# Altium schematic symbol library 18650 battery.SCHLIB: 113 symbols (part 1 of 2)
Pins are listed as number, name and electrical type; pins without a type are passive.

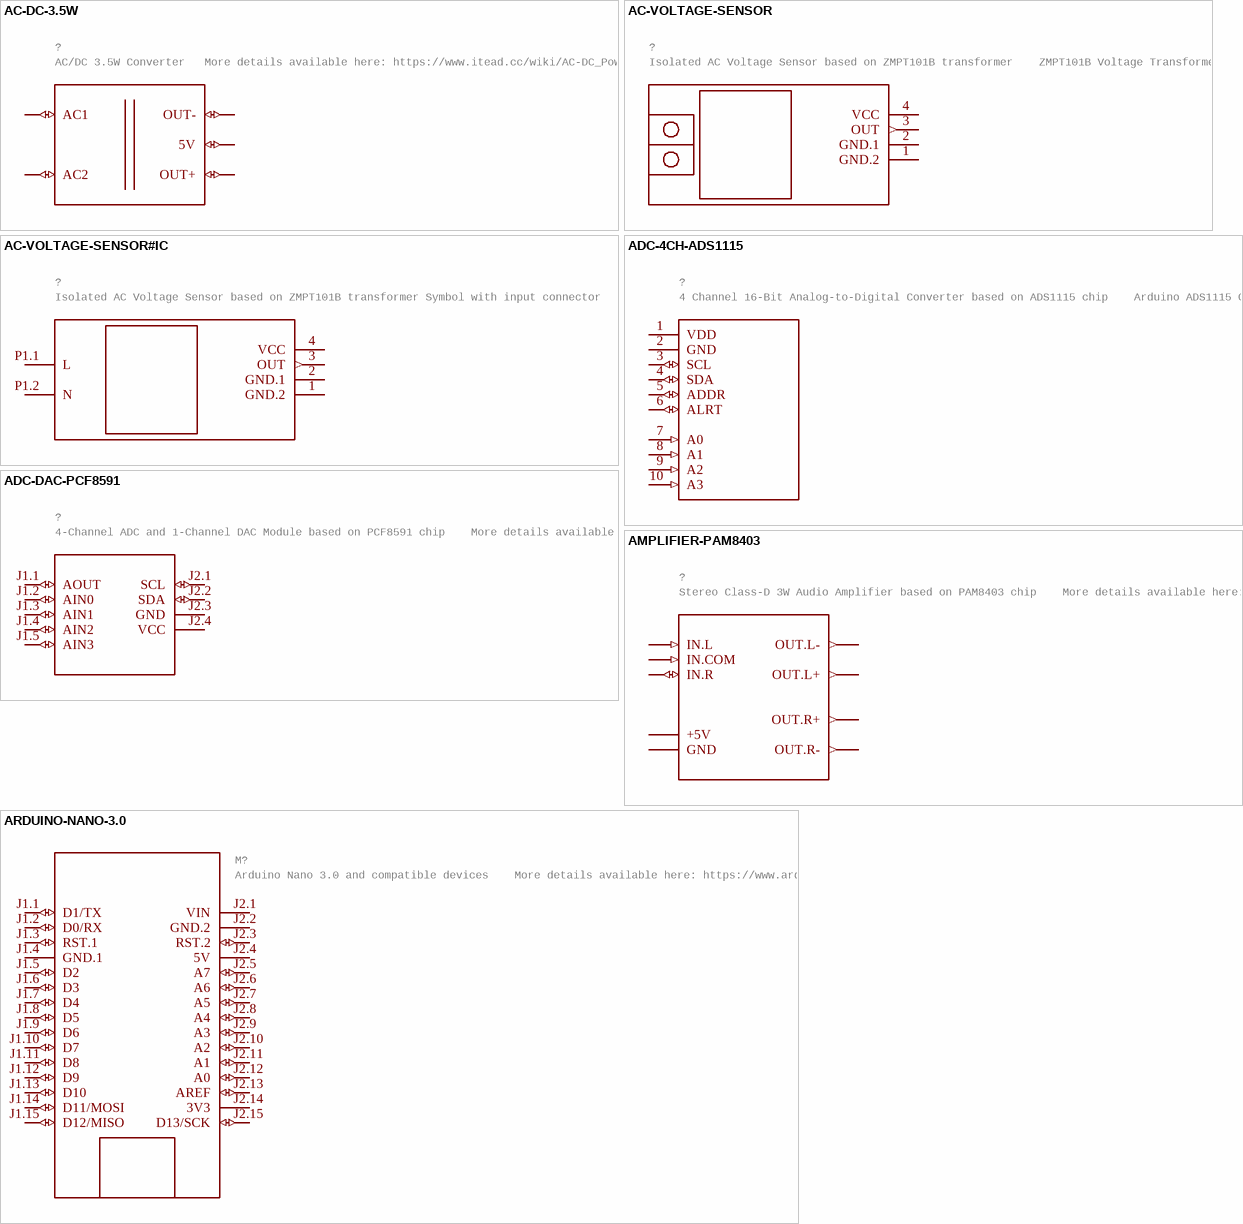
[diagram p0: symbols AC-DC-3.5W to ARDUINO-NANO-3.0]

## AC-DC-3.5W
designator ?, comment AC/DC 3.5W Converter   More details available here: https://www.itead.cc/wiki/AC-DC_Power_Module_5V_700mA   Click here to find device on ebay.com
GateName_1: G$1; SymbolName_1: AC-DC-3.5W; LibraryName: 18650 battery; DeviceSetName: AC-DC-3.5W; Package: AC-DC-3.5W
footprint AC-DC-3.5W
pins: J1.1 AC1 (io), J1.2 AC2 (io), J2.1 OUT- (io), J2.2 5V (io), J2.3 OUT+ (io)

## AC-VOLTAGE-SENSOR
designator ?, comment Isolated AC Voltage Sensor based on ZMPT101B transformer    ZMPT101B Voltage Transformer Operating Guide is available here: http://www.zeming-e.com/file/0_2013_10_18_093344.pdf   Click here to find device on ebay.com
GateName_1: G$1; SymbolName_1: AC-VOLTAGE-SENSOR; LibraryName: 18650 battery; DeviceSetName: AC-VOLTAGE-SENSOR; Package: AC-VOLTAGE-SENSOR
footprint AC-VOLTAGE-SENSOR
pins: 1 GND.2 (power), 2 GND.1 (power), 3 OUT (out), 4 VCC (power)

## AC-VOLTAGE-SENSOR#IC
designator ?, comment Isolated AC Voltage Sensor based on ZMPT101B transformer Symbol with input connector    ZMPT101B Voltage Transformer Operating Guide is available here: http://www.zeming-e.com/file/0_2013_10_18_093344.pdf   Click here to find device on ebay.com
GateName_1: G$1; SymbolName_1: AC-VOLTAGE-SENSOR#IC; LibraryName: 18650 battery; DeviceSetName: AC-VOLTAGE-SENSOR#IC; Package: AC-VOLTAGE-SENSOR#IC
footprint AC-VOLTAGE-SENSOR#IC
pins: 1 GND.2 (power), 2 GND.1 (power), 3 OUT (out), 4 VCC (power), P1.1 L, P1.2 N

## ADC-4CH-ADS1115
designator ?, comment 4 Channel 16-Bit Analog-to-Digital Converter based on ADS1115 chip    Arduino ADS1115 Getting Started Tutorial is available here: http://henrysbench.capnfatz.com/henrys-bench/arduino-voltage-measurements/arduino-ads1115-module-getting-started-tutorial/   ADS1115 datasheet is available here: http://www.ti.com/lit/ds/symlink/ads1115.pdf   Click here to find device on ebay.com
GateName_1: G$1; SymbolName_1: ADC-4CH-ADS1115; LibraryName: 18650 battery; DeviceSetName: ADC-4CH-ADS1115; Package: ADC-4CH-ADS1115
footprint ADC-4CH-ADS1115
pins: 1 VDD (power), 2 GND (power), 3 SCL (io), 4 SDA (io), 5 ADDR (io), 6 ALRT (io), 7 A0 (in), 8 A1 (in), 9 A2 (in), 10 A3 (in)

## ADC-DAC-PCF8591
designator ?, comment 4-Channel ADC and 1-Channel DAC Module based on PCF8591 chip    More details available here: https://brainfyre.wordpress.com/2012/10/25/pcf8591-yl-40-ad-da-module-review/   Click here to find device on ebay.com
GateName_1: G$1; SymbolName_1: ADC-DAC-PCF8591; LibraryName: 18650 battery; DeviceSetName: ADC-DAC-PCF8591; Package: ADC-DAC-PCF8591
footprint ADC-DAC-PCF8591
pins: J1.1 AOUT (io), J1.2 AIN0 (io), J1.3 AIN1 (io), J1.4 AIN2 (io), J1.5 AIN3 (io), J2.1 SCL (io), J2.2 SDA (io), J2.3 GND (power), J2.4 VCC (power)

## AMPLIFIER-PAM8403
designator ?, comment Stereo Class-D 3W Audio Amplifier based on PAM8403 chip    More details available here: http://artofcircuits.com/product/pam8403-5v-two-channel-stereo-mini-class-d-3w3w-audio-amplifier   Click here to find device on ebay.com
GateName_1: G$1; SymbolName_1: AMPLIFIER-PAM8403; LibraryName: 18650 battery; DeviceSetName: AMPLIFIER-PAM8403; Package: AMPLIFIER-PAM8403
footprint AMPLIFIER-PAM8403
pins: +5V (power), GND (power), IN.COM (in), IN.L (in), IN.R (io), OUT.L+ (out), OUT.L- (out), OUT.R+ (out), OUT.R- (out)

## ARDUINO-NANO-3.0
designator M?, comment Arduino Nano 3.0 and compatible devices    More details available here: https://www.arduino.cc/en/Main/ArduinoBoardNano   Click here to find device on ebay.com
GateName_1: G$1; SymbolName_1: ARDUINO-NANO-3.0; LibraryName: 18650 battery; DeviceSetName: ARDUINO-NANO-3.0; Package: ARDUINO-NANO-3.0
footprint ARDUINO-NANO-3.0
pins: J1.1 D1/TX (io), J1.2 D0/RX (io), J1.3 RST.1 (io), J1.4 GND.1 (power), J1.5 D2 (io), J1.6 D3 (io), J1.7 D4 (io), J1.8 D5 (io), J1.9 D6 (io), J1.10 D7 (io), J1.11 D8 (io), J1.12 D9 (io), J1.13 D10 (io), J1.14 D11/MOSI (io), J1.15 D12/MISO (io), J2.1 VIN (power), J2.2 GND.2 (power), J2.3 RST.2 (io), J2.4 5V (power), J2.5 A7 (io), J2.6 A6 (io), J2.7 A5 (io), J2.8 A4 (io), J2.9 A3 (io), J2.10 A2 (io), J2.11 A1 (io), J2.12 A0 (io), J2.13 AREF (io), J2.14 3V3 (power), J2.15 D13/SCK (io)

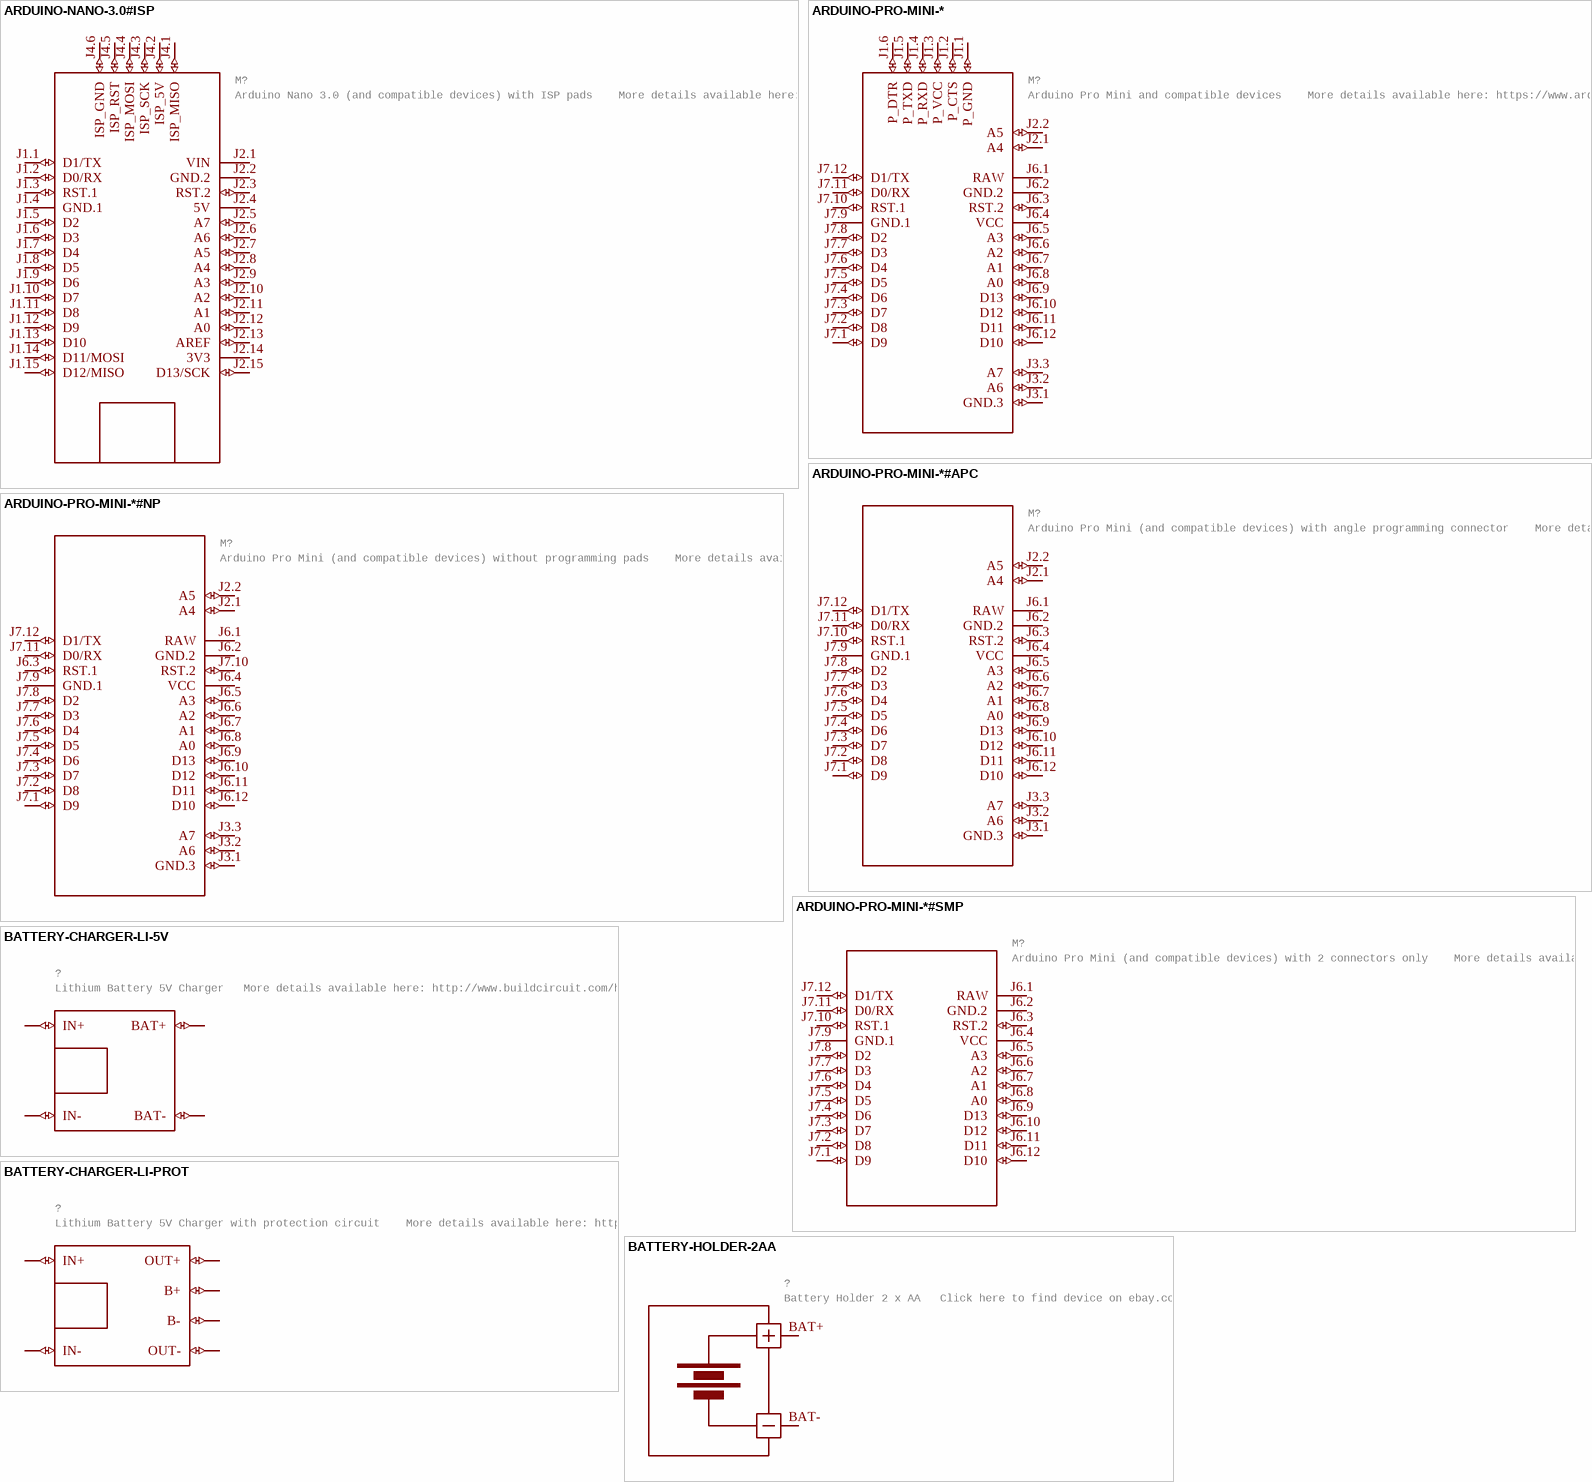
[diagram p1: symbols ARDUINO-NANO-3.0#ISP to BATTERY-HOLDER-2AA]

## ARDUINO-NANO-3.0#ISP
designator M?, comment Arduino Nano 3.0 (and compatible devices) with ISP pads    More details available here: https://www.arduino.cc/en/Main/ArduinoBoardNano   Click here to find device on ebay.com
GateName_1: G$1; SymbolName_1: ARDUINO-NANO-3.0#ISP; LibraryName: 18650 battery; DeviceSetName: ARDUINO-NANO-3.0#ISP; Package: ARDUINO-NANO-3.0#ISP
footprint ARDUINO-NANO-3.0#ISP
pins: J1.1 D1/TX (io), J1.2 D0/RX (io), J1.3 RST.1 (io), J1.4 GND.1 (power), J1.5 D2 (io), J1.6 D3 (io), J1.7 D4 (io), J1.8 D5 (io), J1.9 D6 (io), J1.10 D7 (io), J1.11 D8 (io), J1.12 D9 (io), J1.13 D10 (io), J1.14 D11/MOSI (io), J1.15 D12/MISO (io), J2.1 VIN (power), J2.2 GND.2 (power), J2.3 RST.2 (io), J2.4 5V (power), J2.5 A7 (io), J2.6 A6 (io), J2.7 A5 (io), J2.8 A4 (io), J2.9 A3 (io), J2.10 A2 (io), J2.11 A1 (io), J2.12 A0 (io), J2.13 AREF (io), J2.14 3V3 (power), J2.15 D13/SCK (io), J4.1 ISP_MISO (io), J4.2 ISP_5V (io), J4.3 ISP_SCK (io), J4.4 ISP_MOSI (io), J4.5 ISP_RST (io), J4.6 ISP_GND (io)

## ARDUINO-PRO-MINI-*
designator M?, comment Arduino Pro Mini and compatible devices    More details available here: https://www.arduino.cc/en/Main/ArduinoBoardProMini   Click here to find device on ebay.com
GateName_1: G$1; SymbolName_1: ARDUINO-PRO-MINI; DeviceSetName: ARDUINO-PRO-MINI-*; LibraryName: 18650 battery; Package: ARDUINO-PRO-MINI
footprint ARDUINO-PRO-MINI
pins: J1.1 P_GND (io), J1.2 P_CTS (io), J1.3 P_VCC (io), J1.4 P_RXD (io), J1.5 P_TXD (io), J1.6 P_DTR (io), J2.1 A4 (io), J2.2 A5 (io), J3.1 GND.3 (io), J3.2 A6 (io), J3.3 A7 (io), J6.1 RAW (power), J6.2 GND.2 (power), J6.3 RST.2 (io), J6.4 VCC (power), J6.5 A3 (io), J6.6 A2 (io), J6.7 A1 (io), J6.8 A0 (io), J6.9 D13 (io), J6.10 D12 (io), J6.11 D11 (io), J6.12 D10 (io), J7.1 D9 (io), J7.2 D8 (io), J7.3 D7 (io), J7.4 D6 (io), J7.5 D5 (io), J7.6 D4 (io), J7.7 D3 (io), J7.8 D2 (io), J7.9 GND.1 (power), J7.10 RST.1 (io), J7.11 D0/RX (io), J7.12 D1/TX (io)

## ARDUINO-PRO-MINI-*#APC
designator M?, comment Arduino Pro Mini (and compatible devices) with angle programming connector    More details available here: https://www.arduino.cc/en/Main/ArduinoBoardProMini   Click here to find device on ebay.com
GateName_1: G$1; SymbolName_1: ARDUINO-PRO-MINI#NP; DeviceSetName: ARDUINO-PRO-MINI-*#APC; LibraryName: 18650 battery; Package: ARDUINO-PRO-MINI#APC
footprint ARDUINO-PRO-MINI#APC
pins: J2.1 A4 (io), J2.2 A5 (io), J3.1 GND.3 (io), J3.2 A6 (io), J3.3 A7 (io), J6.1 RAW (power), J6.2 GND.2 (power), J6.3 RST.2 (io), J6.4 VCC (power), J6.5 A3 (io), J6.6 A2 (io), J6.7 A1 (io), J6.8 A0 (io), J6.9 D13 (io), J6.10 D12 (io), J6.11 D11 (io), J6.12 D10 (io), J7.1 D9 (io), J7.2 D8 (io), J7.3 D7 (io), J7.4 D6 (io), J7.5 D5 (io), J7.6 D4 (io), J7.7 D3 (io), J7.8 D2 (io), J7.9 GND.1 (power), J7.10 RST.1 (io), J7.11 D0/RX (io), J7.12 D1/TX (io)

## ARDUINO-PRO-MINI-*#NP
designator M?, comment Arduino Pro Mini (and compatible devices) without programming pads    More details available here: https://www.arduino.cc/en/Main/ArduinoBoardProMini   Click here to find device on ebay.com
GateName_1: G$1; SymbolName_1: ARDUINO-PRO-MINI#NP; DeviceSetName: ARDUINO-PRO-MINI-*#NP; LibraryName: 18650 battery; Package: ARDUINO-PRO-MINI#NP
footprint ARDUINO-PRO-MINI#NP
pins: J2.1 A4 (io), J2.2 A5 (io), J3.1 GND.3 (io), J3.2 A6 (io), J3.3 A7 (io), J6.1 RAW (power), J6.2 GND.2 (power), J6.3 RST.1 (io), J6.4 VCC (power), J6.5 A3 (io), J6.6 A2 (io), J6.7 A1 (io), J6.8 A0 (io), J6.9 D13 (io), J6.10 D12 (io), J6.11 D11 (io), J6.12 D10 (io), J7.1 D9 (io), J7.2 D8 (io), J7.3 D7 (io), J7.4 D6 (io), J7.5 D5 (io), J7.6 D4 (io), J7.7 D3 (io), J7.8 D2 (io), J7.9 GND.1 (power), J7.10 RST.2 (io), J7.11 D0/RX (io), J7.12 D1/TX (io)

## ARDUINO-PRO-MINI-*#SMP
designator M?, comment Arduino Pro Mini (and compatible devices) with 2 connectors only    More details available here: https://www.arduino.cc/en/Main/ArduinoBoardProMini   Click here to find device on ebay.com
GateName_1: G$1; SymbolName_1: ARDUINO-PRO-MINI#SMP; DeviceSetName: ARDUINO-PRO-MINI-*#SMP; LibraryName: 18650 battery; Package: ARDUINO-PRO-MINI#SMP
footprint ARDUINO-PRO-MINI#SMP
pins: J6.1 RAW (power), J6.2 GND.2 (power), J6.3 RST.2 (io), J6.4 VCC (power), J6.5 A3 (io), J6.6 A2 (io), J6.7 A1 (io), J6.8 A0 (io), J6.9 D13 (io), J6.10 D12 (io), J6.11 D11 (io), J6.12 D10 (io), J7.1 D9 (io), J7.2 D8 (io), J7.3 D7 (io), J7.4 D6 (io), J7.5 D5 (io), J7.6 D4 (io), J7.7 D3 (io), J7.8 D2 (io), J7.9 GND.1 (power), J7.10 RST.1 (io), J7.11 D0/RX (io), J7.12 D1/TX (io)

## BATTERY-CHARGER-LI-5V
designator ?, comment Lithium Battery 5V Charger   More details available here: http://www.buildcircuit.com/how-to-use-micro-usb-5v-1a-lithium-battery-charging-board-charger-module/   Click here to find device on ebay.com
GateName_1: G$1; SymbolName_1: BATTERY-CHARGER-LI-5V; LibraryName: 18650 battery; DeviceSetName: BATTERY-CHARGER-LI-5V; Package: BATTERY-CHARGER-LI-5V
footprint BATTERY-CHARGER-LI-5V
pins: BAT+ (io), BAT- (io), IN+ (io), IN- (io)

## BATTERY-CHARGER-LI-PROT
designator ?, comment Lithium Battery 5V Charger with protection circuit    More details available here: http://www.instructables.com/id/DIY-Lithium-ion-Battery-Charger/step4/TP4056-based-lithium-ion-battery-charger-module/   Click here to find device on ebay.com
GateName_1: G$1; SymbolName_1: BATTERY-CHARGER-LI-PROT; LibraryName: 18650 battery; DeviceSetName: BATTERY-CHARGER-LI-PROT; Package: BATTERY-CHARGER-LI-PROT
footprint BATTERY-CHARGER-LI-PROT
pins: B+ (io), B- (io), IN+ (io), IN- (io), OUT+ (io), OUT- (io)

## BATTERY-HOLDER-2AA
designator ?, comment Battery Holder 2 x AA   Click here to find device on ebay.com
GateName_1: G$1; SymbolName_1: BATTERY-HOLDER-2AA; LibraryName: 18650 battery; DeviceSetName: BATTERY-HOLDER-2AA; Package: BATTERY-HOLDER-2AA
footprint BATTERY-HOLDER-2AA
pins: BAT+ (power), BAT- (power)

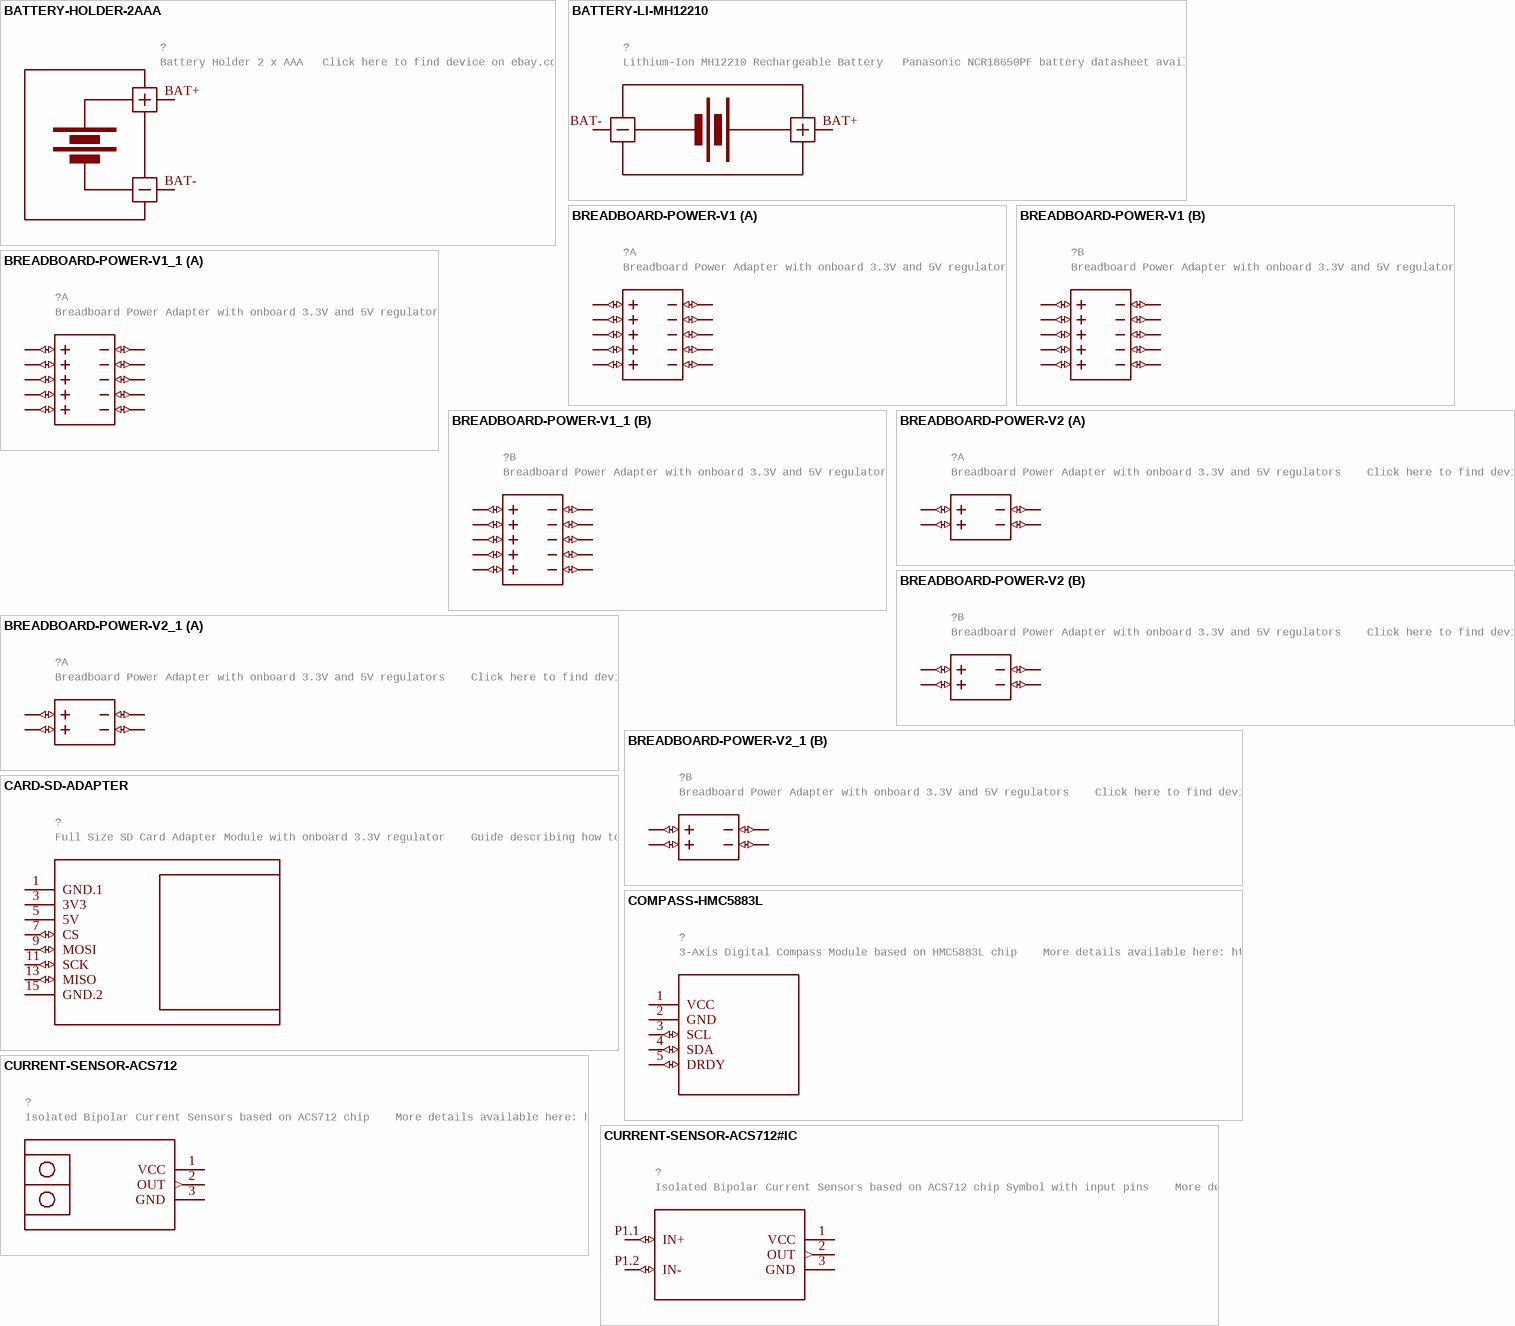
[diagram p2: symbols BATTERY-HOLDER-2AAA to CURRENT-SENSOR-ACS712#IC]

## BATTERY-HOLDER-2AAA
designator ?, comment Battery Holder 2 x AAA   Click here to find device on ebay.com
GateName_1: G$1; SymbolName_1: BATTERY-HOLDER-2AAA; LibraryName: 18650 battery; DeviceSetName: BATTERY-HOLDER-2AAA; Package: BATTERY-HOLDER-2AAA
footprint BATTERY-HOLDER-2AAA
pins: BAT+ (power), BAT- (power)

## BATTERY-LI-MH12210
designator ?, comment Lithium-Ion MH12210 Rechargeable Battery   Panasonic NCR18650PF battery datasheet available here: https://industrial.panasonic.com/cdbs/www-data/pdf2/ACI4000/ACI4000C12.pdf   Click here to find device on ebay.com
GateName_1: G$1; SymbolName_1: BATTERY-LI-MH12210; LibraryName: 18650 battery; DeviceSetName: BATTERY-LI-MH12210; Package: BATTERY-LI-MH12210
footprint BATTERY-LI-MH12210
pins: BAT+ BATP (power), BAT- BATM (power)

## BREADBOARD-POWER-V1
designator ?, comment Breadboard Power Adapter with onboard 3.3V and 5V regulators
GateName_1: G$1; SymbolName_1: BREADBOARD-POWER-V1; GateName_2: G$2; SymbolName_2: BREADBOARD-POWER-V1; LibraryName: 18650 battery; DeviceSetName: BREADBOARD-POWER-V1; Package: BREADBOARD-POWER-V1
footprint BREADBOARD-POWER-V1
part A pins: A.M.1 M.1 (io), A.M.2 M.2 (io), A.M.3 M.3 (io), A.M.4 M.4 (io), A.M.5 M.5 (io), A.P.1 P.1 (io), A.P.2 P.2 (io), A.P.3 P.3 (io), A.P.4 P.4 (io), A.P.5 P.5 (io)
part B pins: B.M.1 M.1 (io), B.M.2 M.2 (io), B.M.3 M.3 (io), B.M.4 M.4 (io), B.M.5 M.5 (io), B.P.1 P.1 (io), B.P.2 P.2 (io), B.P.3 P.3 (io), B.P.4 P.4 (io), B.P.5 P.5 (io)

## BREADBOARD-POWER-V1_1
designator ?, comment Breadboard Power Adapter with onboard 3.3V and 5V regulators
GateName_1: G$1; SymbolName_1: BREADBOARD-POWER-V1; GateName_2: G$2; SymbolName_2: BREADBOARD-POWER-V1; LibraryName: 18650 battery; DeviceSetName: BREADBOARD-POWER-V1; Package: BREADBOARD-POWER-V1
footprint BREADBOARD-POWER-V1
part A pins: A.M.1 M.1 (io), A.M.2 M.2 (io), A.M.3 M.3 (io), A.M.4 M.4 (io), A.M.5 M.5 (io), A.P.1 P.1 (io), A.P.2 P.2 (io), A.P.3 P.3 (io), A.P.4 P.4 (io), A.P.5 P.5 (io)
part B pins: B.M.1 M.1 (io), B.M.2 M.2 (io), B.M.3 M.3 (io), B.M.4 M.4 (io), B.M.5 M.5 (io), B.P.1 P.1 (io), B.P.2 P.2 (io), B.P.3 P.3 (io), B.P.4 P.4 (io), B.P.5 P.5 (io)

## BREADBOARD-POWER-V2
designator ?, comment Breadboard Power Adapter with onboard 3.3V and 5V regulators    Click here to find device on ebay.com
GateName_1: G$1; SymbolName_1: BREADBOARD-POWER-V2; GateName_2: G$2; SymbolName_2: BREADBOARD-POWER-V2; LibraryName: 18650 battery; DeviceSetName: BREADBOARD-POWER-V2; Package: BREADBOARD-POWER-V2
footprint BREADBOARD-POWER-V2
part A pins: A.M.1 M.1 (io), A.M.2 M.2 (io), A.P.1 P.1 (io), A.P.2 P.2 (io)
part B pins: B.M.1 M.1 (io), B.M.2 M.2 (io), B.P.1 P.1 (io), B.P.2 P.2 (io)

## BREADBOARD-POWER-V2_1
designator ?, comment Breadboard Power Adapter with onboard 3.3V and 5V regulators    Click here to find device on ebay.com
GateName_1: G$1; SymbolName_1: BREADBOARD-POWER-V2; GateName_2: G$2; SymbolName_2: BREADBOARD-POWER-V2; LibraryName: 18650 battery; DeviceSetName: BREADBOARD-POWER-V2; Package: BREADBOARD-POWER-V2
footprint BREADBOARD-POWER-V2
part A pins: A.M.1 M.1 (io), A.M.2 M.2 (io), A.P.1 P.1 (io), A.P.2 P.2 (io)
part B pins: B.M.1 M.1 (io), B.M.2 M.2 (io), B.P.1 P.1 (io), B.P.2 P.2 (io)

## CARD-SD-ADAPTER
designator ?, comment Full Size SD Card Adapter Module with onboard 3.3V regulator    Guide describing how to use SD card with Arduino is available here: https://www.arduino.cc/en/Reference/SDCardNotes   Click here to find device on ebay.com
GateName_1: G$1; SymbolName_1: CARD-SD-ADAPTER; LibraryName: 18650 battery; DeviceSetName: CARD-SD-ADAPTER; Package: CARD-SD-ADAPTER
footprint CARD-SD-ADAPTER
pins: 1 GND.1 (power), 3 3V3 (power), 5 5V (power), 7 CS (io), 9 MOSI (io), 11 SCK (io), 13 MISO (io), 15 GND.2 (power)

## COMPASS-HMC5883L
designator ?, comment 3-Axis Digital Compass Module based on HMC5883L chip    More details available here: http://www.electrodragon.com/w/HMC   Click here to find device on ebay.com
GateName_1: G$1; SymbolName_1: COMPASS-HMC5883L; LibraryName: 18650 battery; DeviceSetName: COMPASS-HMC5883L; Package: COMPASS-HMC5883L
footprint COMPASS-HMC5883L
pins: 1 VCC (power), 2 GND (power), 3 SCL (io), 4 SDA (io), 5 DRDY (io)

## CURRENT-SENSOR-ACS712
designator ?, comment Isolated Bipolar Current Sensors based on ACS712 chip    More details available here: http://embedded-lab.com/blog/a-brief-overview-of-allegro-acs712-current-sensor-part-1/   Click here to find device on ebay.com Note: There are many available versions with different pinout. Please check before use
GateName_1: G$1; SymbolName_1: CURRENT-SENSOR-ACS712; LibraryName: 18650 battery; DeviceSetName: CURRENT-SENSOR-ACS712; Package: CURRENT-SENSOR-ACS712
footprint CURRENT-SENSOR-ACS712
pins: 1 VCC (power), 2 OUT (out), 3 GND (power)

## CURRENT-SENSOR-ACS712#IC
designator ?, comment Isolated Bipolar Current Sensors based on ACS712 chip Symbol with input pins    More details available here: http://embedded-lab.com/blog/a-brief-overview-of-allegro-acs712-current-sensor-part-1/   Click here to find device on ebay.com Note: There are many available versions with different pinout. Please check before use
GateName_1: G$1; SymbolName_1: CURRENT-SENSOR-ACS712#IC; LibraryName: 18650 battery; DeviceSetName: CURRENT-SENSOR-ACS712#IC; Package: CURRENT-SENSOR-ACS712#IC
footprint CURRENT-SENSOR-ACS712#IC
pins: 1 VCC (power), 2 OUT (out), 3 GND (power), P1.1 IN+ (io), P1.2 IN- (io)

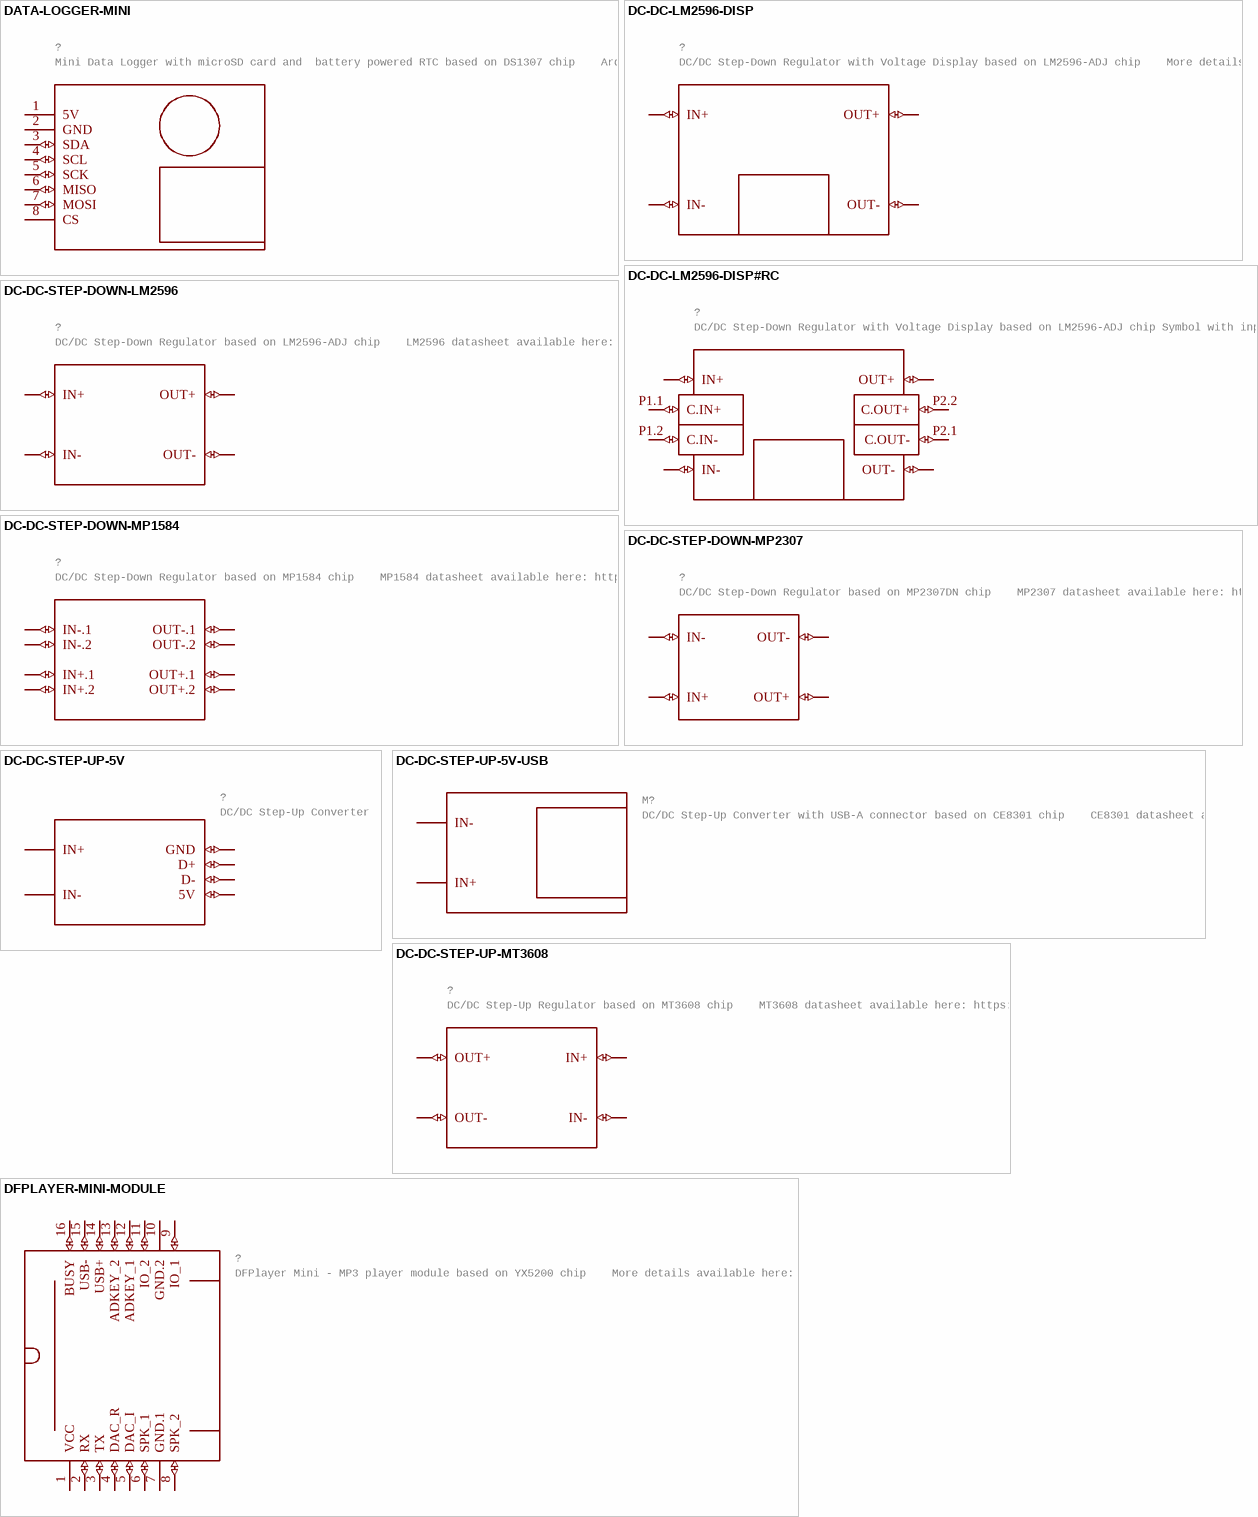
[diagram p3: symbols DATA-LOGGER-MINI to DFPLAYER-MINI-MODULE]

## DATA-LOGGER-MINI
designator ?, comment Mini Data Logger with microSD card and  battery powered RTC based on DS1307 chip    Arduino library for DS1307 and description are available here: https://www.pjrc.com/teensy/td_libs_DS1307RTC.html   Tutorial how to use SD card with Arduino: https://www.arduino.cc/en/reference/SD   Click here to find device on ebay.com
GateName_1: G$1; SymbolName_1: DATA-LOGGER-MINI; LibraryName: 18650 battery; DeviceSetName: DATA-LOGGER-MINI; Package: DATA-LOGGER-MINI
footprint DATA-LOGGER-MINI
pins: 1 5V (power), 2 GND (power), 3 SDA (io), 4 SCL (io), 5 SCK (io), 6 MISO (io), 7 MOSI (io), 8 CS (power)

## DC-DC-LM2596-DISP
designator ?, comment DC/DC Step-Down Regulator with Voltage Display based on LM2596-ADJ chip    More details available here: http://www.instructables.com/id/The-Introduction-of-LM2596-Step-Down-Power-Module-/   LM2596 datasheet available here: http://www.ti.com/lit/ds/symlink/lm2596.pdf   Click here to find device on ebay.com
GateName_1: G$1; SymbolName_1: DC-DC-LM2596-DISP; LibraryName: 18650 battery; DeviceSetName: DC-DC-LM2596-DISP; Package: DC-DC-LM2596-DISP
footprint DC-DC-LM2596-DISP
pins: IN+ (io), IN- (io), OUT+ (io), OUT- (io)

## DC-DC-LM2596-DISP#RC
designator ?, comment DC/DC Step-Down Regulator with Voltage Display based on LM2596-ADJ chip Symbol with input and output connectors    More details available here: http://www.instructables.com/id/The-Introduction-of-LM2596-Step-Down-Power-Module-/   LM2596 datasheet available here: http://www.ti.com/lit/ds/symlink/lm2596.pdf   Click here to find device on ebay.com
GateName_1: G$1; SymbolName_1: DC-DC-LM2596-DISP#RC; LibraryName: 18650 battery; DeviceSetName: DC-DC-LM2596-DISP#RC; Package: DC-DC-LM2596-DISP#RC
footprint DC-DC-LM2596-DISP#RC
pins: IN+ (io), IN- (io), OUT+ (io), OUT- (io), P1.1 C.IN+ (io), P1.2 C.IN- (io), P2.1 C.OUT- (io), P2.2 C.OUT+ (io)

## DC-DC-STEP-DOWN-LM2596
designator ?, comment DC/DC Step-Down Regulator based on LM2596-ADJ chip    LM2596 datasheet available here: http://www.ti.com/lit/ds/symlink/lm2596.pdf   Click here to find device on ebay.com
GateName_1: G$1; SymbolName_1: DC-DC-STEP-DOWN-LM2596; LibraryName: 18650 battery; DeviceSetName: DC-DC-STEP-DOWN-LM2596; Package: DC-DC-STEP-DOWN-LM2596
footprint DC-DC-STEP-DOWN-LM2596
pins: IN+ (io), IN- (io), OUT+ (io), OUT- (io)

## DC-DC-STEP-DOWN-MP1584
designator ?, comment DC/DC Step-Down Regulator based on MP1584 chip    MP1584 datasheet available here: http://www.haoyuelectronics.com/Attachment/MP1584/MP1584.pdf   Click here to find device on ebay.com
GateName_1: G$1; SymbolName_1: DC-DC-STEP-DOWN-MP1584; LibraryName: 18650 battery; DeviceSetName: DC-DC-STEP-DOWN-MP1584; Package: DC-DC-STEP-DOWN-MP1584
footprint DC-DC-STEP-DOWN-MP1584
pins: IN+.1 (io), IN+.2 (io), IN-.1 (io), IN-.2 (io), OUT+.1 (io), OUT+.2 (io), OUT-.1 (io), OUT-.2 (io)

## DC-DC-STEP-DOWN-MP2307
designator ?, comment DC/DC Step-Down Regulator based on MP2307DN chip    MP2307 datasheet available here: https://cdn-shop.adafruit.com/datasheets/MP2307_r1.9.pdf   Click here to find device on ebay.com
GateName_1: G$1; SymbolName_1: DC-DC-STEP-DOWN-MP2307; LibraryName: 18650 battery; DeviceSetName: DC-DC-STEP-DOWN-MP2307; Package: DC-DC-STEP-DOWN-MP2307
footprint DC-DC-STEP-DOWN-MP2307
pins: IN+ (io), IN- (io), OUT+ (io), OUT- (io)

## DC-DC-STEP-UP-5V
designator ?, comment DC/DC Step-Up Converter
GateName_1: G$1; SymbolName_1: DC-DC-STEP-UP-5V; LibraryName: 18650 battery; DeviceSetName: DC-DC-STEP-UP-5V; Package: DC-DC-STEP-UP-5V
footprint DC-DC-STEP-UP-5V
pins: 5V (io), D+ (io), D- (io), GND (io), IN+ (power), IN- (power)

## DC-DC-STEP-UP-5V-USB
designator M?, comment DC/DC Step-Up Converter with USB-A connector based on CE8301 chip    CE8301 datasheet available here: https://www.mpja.com/download/ce830.pdf   Click here to find device on ebay.com
GateName_1: G$1; SymbolName_1: DC-DC-STEP-UP-5V-USB; LibraryName: 18650 battery; DeviceSetName: DC-DC-STEP-UP-5V-USB; Package: DC-DC-STEP-UP-5V-USB
footprint DC-DC-STEP-UP-5V-USB
pins: IN+ (power), IN- (power)

## DC-DC-STEP-UP-MT3608
designator ?, comment DC/DC Step-Up Regulator based on MT3608 chip    MT3608 datasheet available here: https://www.olimex.com/Products/Breadboarding/BB-PWR-3608/resources/MT3608.pdf   Click here to find device on ebay.com
GateName_1: G$1; SymbolName_1: DC-DC-STEP-UP-MT3608; LibraryName: 18650 battery; DeviceSetName: DC-DC-STEP-UP-MT3608; Package: DC-DC-STEP-UP-MT3608
footprint DC-DC-STEP-UP-MT3608
pins: IN+ (io), IN- (io), OUT+ (io), OUT- (io)

## DFPLAYER-MINI-MODULE
designator ?, comment DFPlayer Mini - MP3 player module based on YX5200 chip    More details available here: https://www.dfrobot.com/wiki/index.php/DFPlayer_Mini_SKU:DFR0299   Click here to find device on ebay.com
GateName_1: G$1; SymbolName_1: DFPLAYER-MINI-MODULE; LibraryName: 18650 battery; DeviceSetName: DFPLAYER-MINI-MODULE; Package: DFPLAYER-MINI-MODULE
footprint DFPLAYER-MINI-MODULE
pins: 1 VCC (power), 2 RX (io), 3 TX (io), 4 DAC_R (io), 5 DAC_I (io), 6 SPK_1 (io), 7 GND.1 (power), 8 SPK_2 (io), 9 IO_1 (io), 10 GND.2 (power), 11 IO_2 (io), 12 ADKEY_1 (io), 13 ADKEY_2 (io), 14 USB+ (io), 15 USB- (io), 16 BUSY (io)

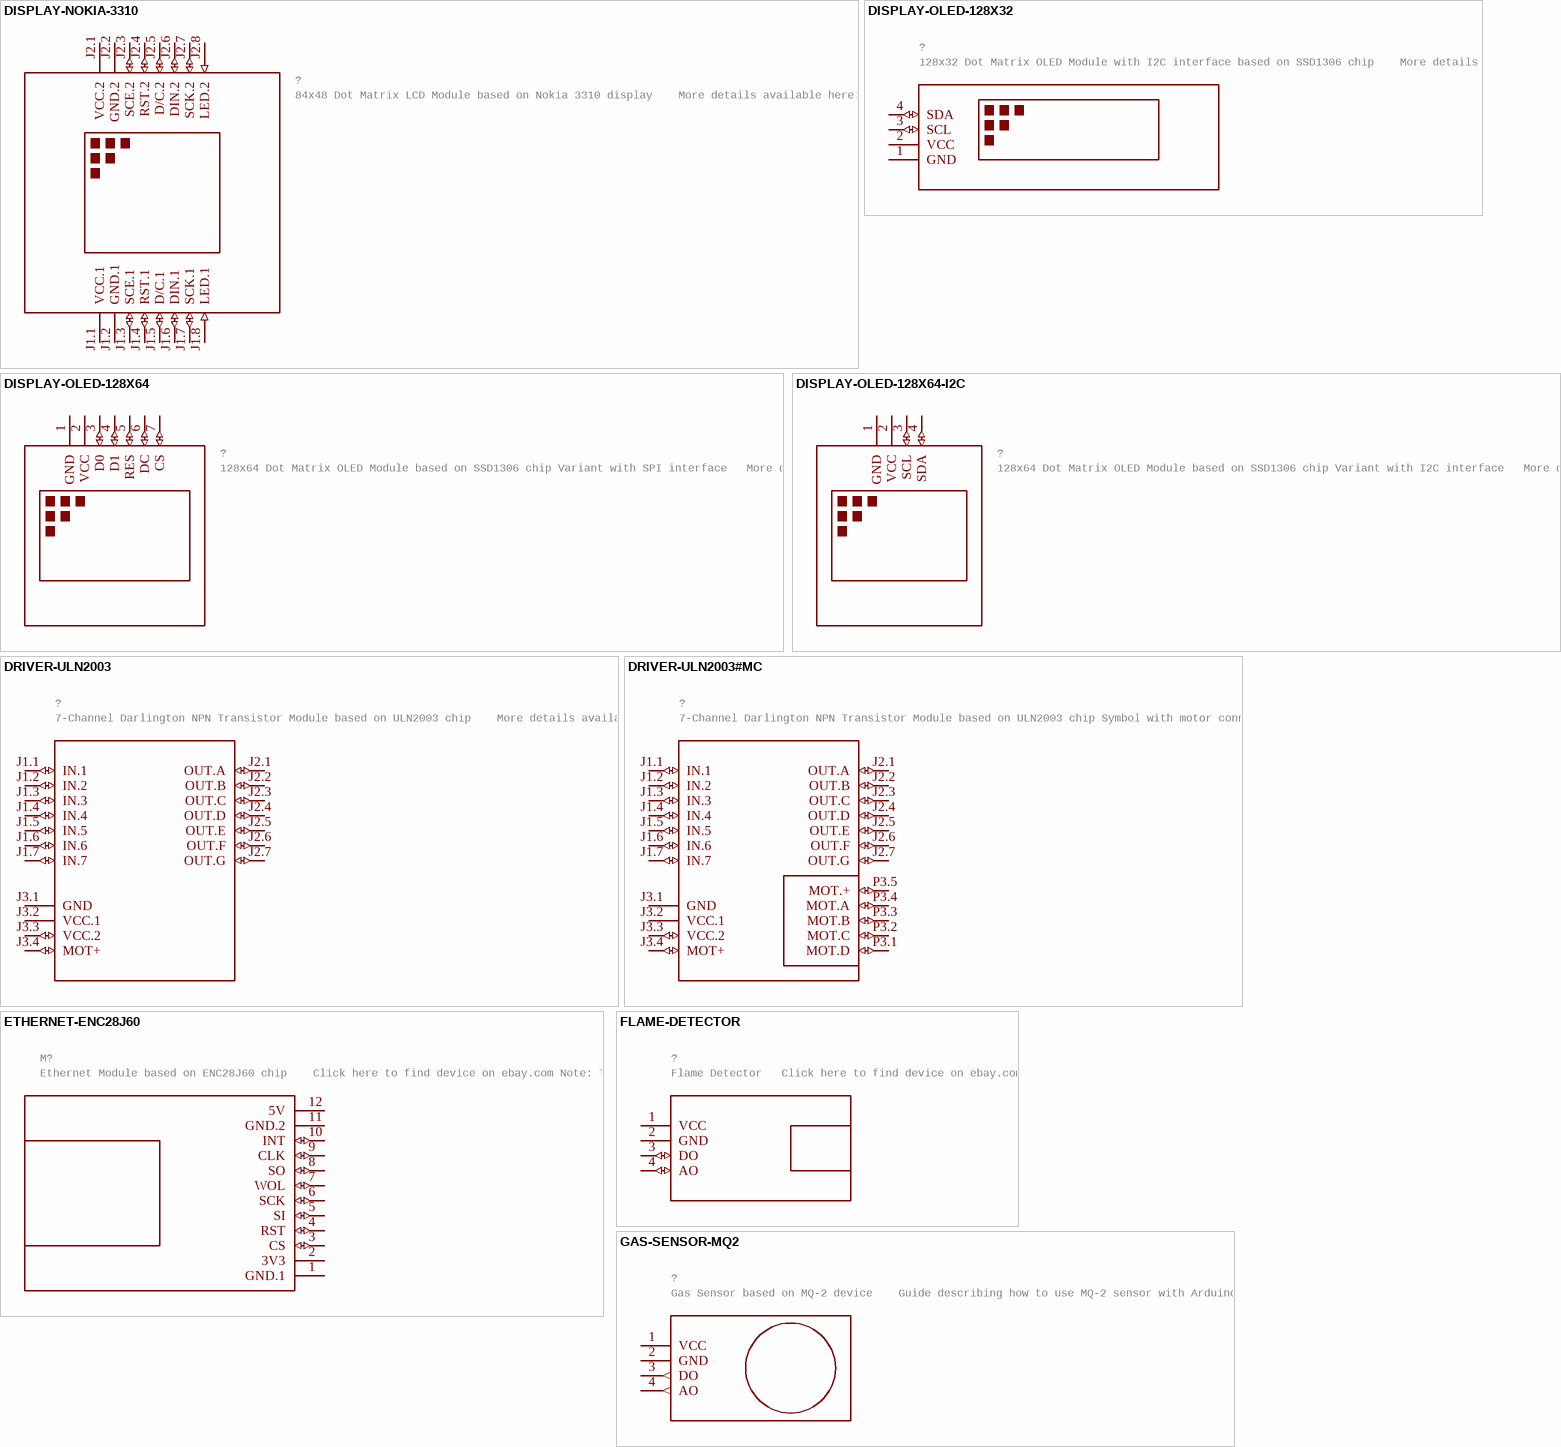
[diagram p4: symbols DISPLAY-NOKIA-3310 to GAS-SENSOR-MQ2]

## DISPLAY-NOKIA-3310
designator ?, comment 84x48 Dot Matrix LCD Module based on Nokia 3310 display    More details available here: https://arduinoandsoftware.wordpress.com/2012/12/30/nokia-33105110-3-3v-display-with-5v-arduino/
GateName_1: G$1; SymbolName_1: DISPLAY-NOKIA-3310; LibraryName: 18650 battery; DeviceSetName: DISPLAY-NOKIA-3310; Package: DISPLAY-NOKIA-3310
footprint DISPLAY-NOKIA-3310
pins: J1.1 VCC.1 (power), J1.2 GND.1 (power), J1.3 SCE.1 (io), J1.4 RST.1 (io), J1.5 D/C.1 (io), J1.6 DIN.1 (io), J1.7 SCK.1 (io), J1.8 LED.1 (in), J2.1 VCC.2 (power), J2.2 GND.2 (power), J2.3 SCE.2 (io), J2.4 RST.2 (io), J2.5 D/C.2 (io), J2.6 DIN.2 (io), J2.7 SCK.2 (io), J2.8 LED.2 (in)

## DISPLAY-OLED-128X32
designator ?, comment 128x32 Dot Matrix OLED Module with I2C interface based on SSD1306 chip    More details available here: http://www.tinyosshop.com/index.php?route=product/product&product_id=953   Schematic available here: http://www.tinyosshop.com/datasheet/OLED%2012832.pdf   SSD1306 datasheet: https://cdn-shop.adafruit.com/datasheets/SSD1306.pdf   Click here to find device on ebay.com
GateName_1: G$1; SymbolName_1: DISPLAY-OLED-128X32; LibraryName: 18650 battery; DeviceSetName: DISPLAY-OLED-128X32; Package: DISPLAY-OLED-128X32
footprint DISPLAY-OLED-128X32
pins: 1 GND (power), 2 VCC (power), 3 SCL (io), 4 SDA (io)

## DISPLAY-OLED-128X64
designator ?, comment 128x64 Dot Matrix OLED Module based on SSD1306 chip Variant with SPI interface   More details available here: http://www.instructables.com/id/How-to-use-OLED-display-arduino-module/   SSD1306 datasheet: https://cdn-shop.adafruit.com/datasheets/SSD1306.pdf   Click here to find device on ebay.com Note: There are two variants: I2C and SPI. Search for the proper version.
GateName_1: G$1; SymbolName_1: DISPLAY-OLED-128X64; LibraryName: 18650 battery; DeviceSetName: DISPLAY-OLED-128X64; Package: DISPLAY-OLED-128X64
footprint DISPLAY-OLED-128X64
pins: 1 GND (power), 2 VCC (power), 3 D0 (io), 4 D1 (io), 5 RES (io), 6 DC (io), 7 CS (io)

## DISPLAY-OLED-128X64-I2C
designator ?, comment 128x64 Dot Matrix OLED Module based on SSD1306 chip Variant with I2C interface   More details available here: http://www.instructables.com/id/Monochrome-096-i2c-OLED-display-with-arduino-SSD13/   SSD1306 datasheet: https://cdn-shop.adafruit.com/datasheets/SSD1306.pdf   Click here to find device on ebay.com Note: There are two variants: I2C and SPI. Search for the proper version.
GateName_1: G$1; SymbolName_1: DISPLAY-OLED-128X64-I2C; LibraryName: 18650 battery; DeviceSetName: DISPLAY-OLED-128X64-I2C; Package: DISPLAY-OLED-128X64-I2C
footprint DISPLAY-OLED-128X64-I2C
pins: 1 GND (power), 2 VCC (power), 3 SCL (io), 4 SDA (io)

## DRIVER-ULN2003
designator ?, comment 7-Channel Darlington NPN Transistor Module based on ULN2003 chip    More details available here: https://www.elecrow.com/wiki/index.php?title=ULN2003_Stepper_Motor_Driver   ULN2003 datasheet available here: http://www.ti.com/lit/ds/slrs027o/slrs027o.pdf   Click here to find device on ebay.com Note: There are many variants. Search for the proper version.
GateName_1: G$1; SymbolName_1: DRIVER-ULN2003; LibraryName: 18650 battery; DeviceSetName: DRIVER-ULN2003; Package: DRIVER-ULN2003
footprint DRIVER-ULN2003
pins: J1.1 IN.1 (io), J1.2 IN.2 (io), J1.3 IN.3 (io), J1.4 IN.4 (io), J1.5 IN.5 (io), J1.6 IN.6 (io), J1.7 IN.7 (io), J2.1 OUT.A (io), J2.2 OUT.B (io), J2.3 OUT.C (io), J2.4 OUT.D (io), J2.5 OUT.E (io), J2.6 OUT.F (io), J2.7 OUT.G (io), J3.1 GND (power), J3.2 VCC.1 (power), J3.3 VCC.2 (io), J3.4 MOT+ (io)

## DRIVER-ULN2003#MC
designator ?, comment 7-Channel Darlington NPN Transistor Module based on ULN2003 chip Symbol with motor connector pins    More details available here: https://www.elecrow.com/wiki/index.php?title=ULN2003_Stepper_Motor_Driver   ULN2003 datasheet available here: http://www.ti.com/lit/ds/slrs027o/slrs027o.pdf   Click here to find device on ebay.com Note: There are many variants. Search for the proper version.
GateName_1: G$1; SymbolName_1: DRIVER-ULN2003#MC; LibraryName: 18650 battery; DeviceSetName: DRIVER-ULN2003#MC; Package: DRIVER-ULN2003#MC
footprint DRIVER-ULN2003#MC
pins: J1.1 IN.1 (io), J1.2 IN.2 (io), J1.3 IN.3 (io), J1.4 IN.4 (io), J1.5 IN.5 (io), J1.6 IN.6 (io), J1.7 IN.7 (io), J2.1 OUT.A (io), J2.2 OUT.B (io), J2.3 OUT.C (io), J2.4 OUT.D (io), J2.5 OUT.E (io), J2.6 OUT.F (io), J2.7 OUT.G (io), J3.1 GND (power), J3.2 VCC.1 (power), J3.3 VCC.2 (io), J3.4 MOT+ (io), P3.1 MOT.D (io), P3.2 MOT.C (io), P3.3 MOT.B (io), P3.4 MOT.A (io), P3.5 MOT.+ (io)

## ETHERNET-ENC28J60
designator M?, comment Ethernet Module based on ENC28J60 chip    Click here to find device on ebay.com Note: There are many variants. Search for the proper version.
GateName_1: G$1; SymbolName_1: ETHERNET-ENC28J60; LibraryName: 18650 battery; DeviceSetName: ETHERNET-ENC28J60; Package: ETHERNET-ENC28J60
footprint ETHERNET-ENC28J60
pins: 1 GND.1 (power), 2 3V3 (power), 3 CS (io), 4 RST (io), 5 SI (io), 6 SCK (io), 7 WOL (io), 8 SO (io), 9 CLK (io), 10 INT (io), 11 GND.2 (power), 12 5V (power)

## FLAME-DETECTOR
designator ?, comment Flame Detector   Click here to find device on ebay.com
GateName_1: G$1; SymbolName_1: FLAME-DETECTOR; LibraryName: 18650 battery; DeviceSetName: FLAME-DETECTOR; Package: FLAME-DETECTOR
footprint FLAME-DETECTOR
pins: 1 VCC (power), 2 GND (power), 3 DO (io), 4 AO (io)

## GAS-SENSOR-MQ2
designator ?, comment Gas Sensor based on MQ-2 device    Guide describing how to use MQ-2 sensor with Arduino is available here: http://www.instructables.com/id/How-to-use-MQ2-Gas-Sensor-Arduino-Tutorial/   MQ-2 sensor datasheet is available here: http://gas-sensor.ru/pdf/combustible-gas-sensor.pdf   Click here to find device on ebay.com
GateName_1: G$1; SymbolName_1: GAS-SENSOR-MQ2; LibraryName: 18650 battery; DeviceSetName: GAS-SENSOR-MQ2; Package: GAS-SENSOR-MQ2
footprint GAS-SENSOR-MQ2
pins: 1 VCC (power), 2 GND (power), 3 DO (out), 4 AO (out)

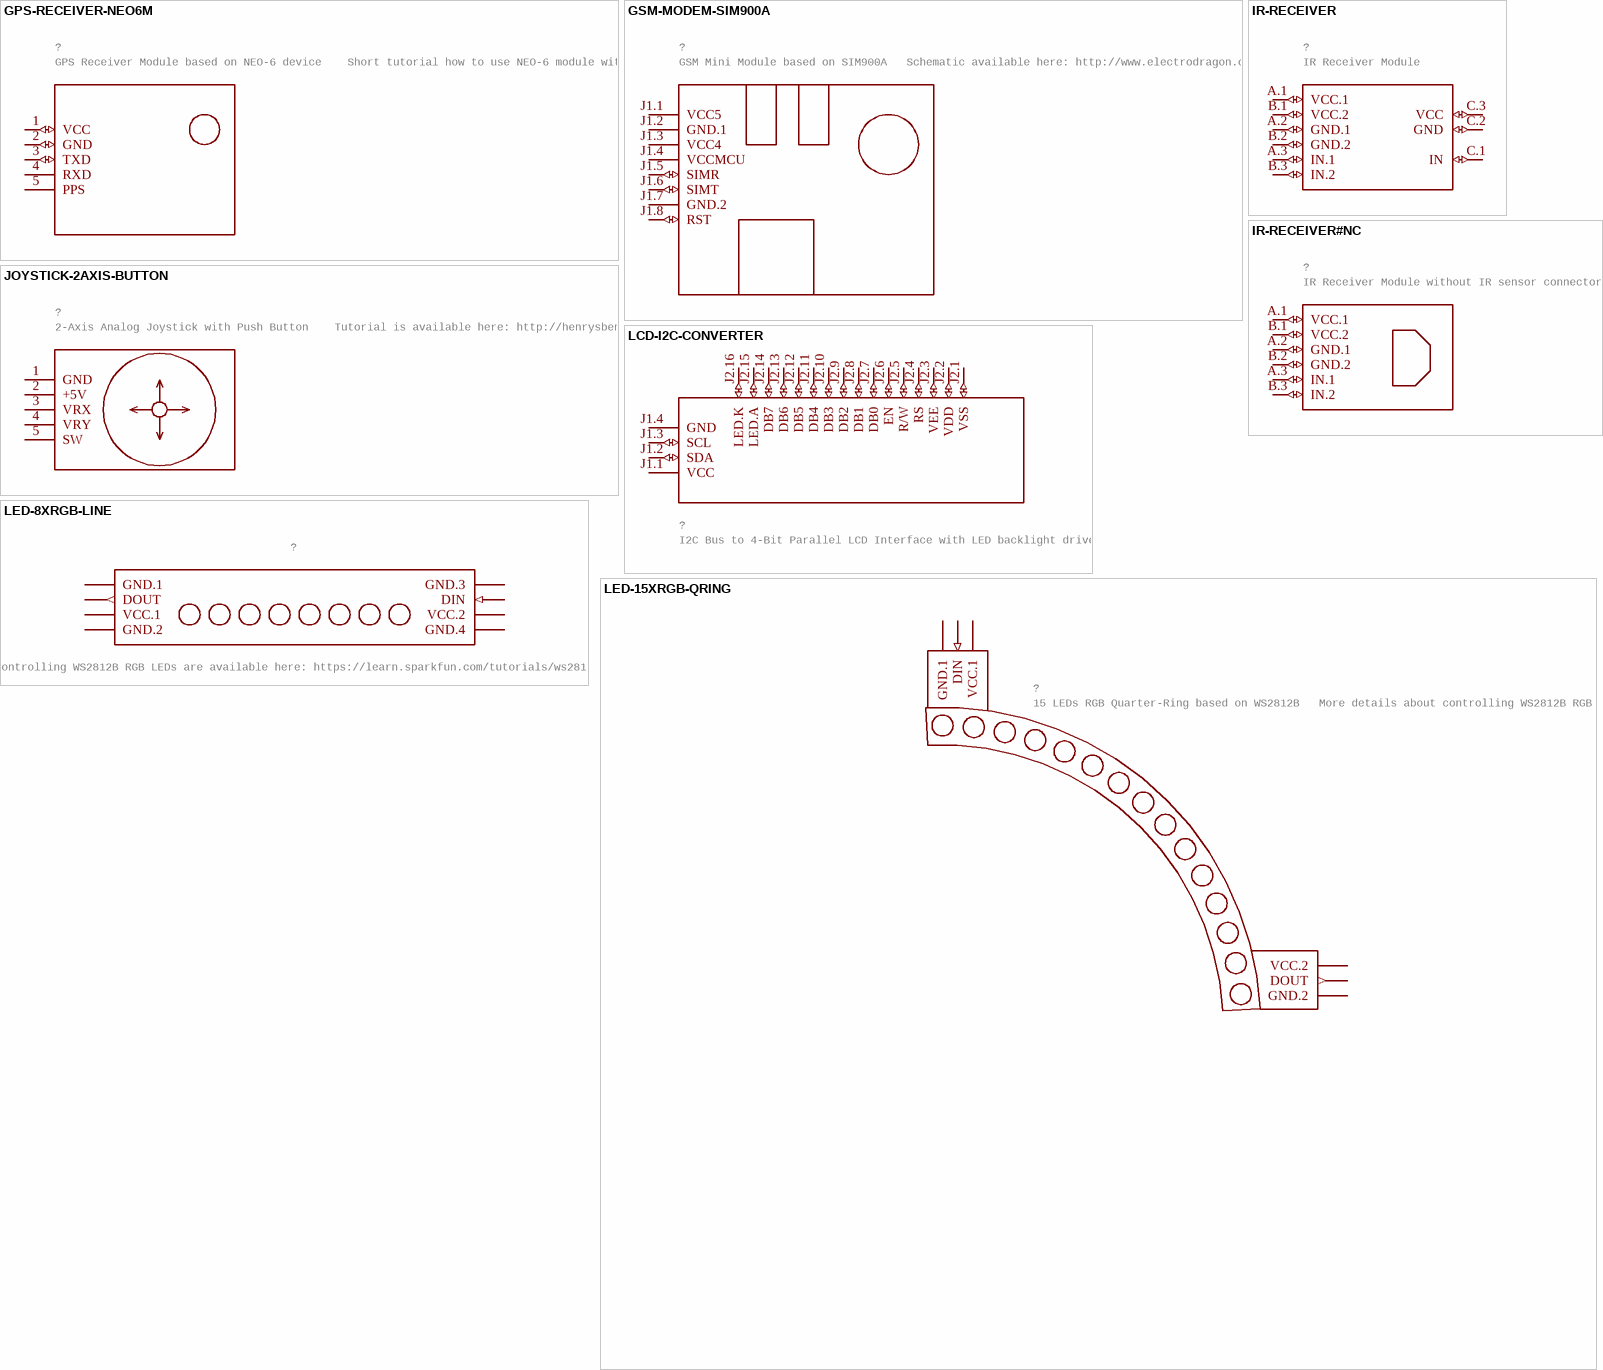
[diagram p5: symbols GPS-RECEIVER-NEO6M to LED-15XRGB-QRING]

## GPS-RECEIVER-NEO6M
designator ?, comment GPS Receiver Module based on NEO-6 device    Short tutorial how to use NEO-6 module with Arduino: http://www.xarg.org/2016/06/neo6mv2-gps-module-with-arduino/   NEO-6 datasheet is available here: https://www.u-blox.com/sites/default/files/products/documents/NEO-6_DataSheet_%28GPS.G6-HW-09005%29.pdf   Click here to find device on ebay.com
GateName_1: G$1; SymbolName_1: GPS-RECEIVER-NEO6M; LibraryName: 18650 battery; DeviceSetName: GPS-RECEIVER-NEO6M; Package: GPS-RECEIVER-NEO6M
footprint GPS-RECEIVER-NEO6M
pins: 1 VCC (io), 2 GND (io), 3 TXD (io), 4 RXD (power), 5 PPS (power)

## GSM-MODEM-SIM900A
designator ?, comment GSM Mini Module based on SIM900A   Schematic available here: http://www.electrodragon.com/w/SIM900_(SIM900A)_Mini_DEV_Board
GateName_1: G$1; SymbolName_1: GSM-MODEM-SIM900A; LibraryName: 18650 battery; DeviceSetName: GSM-MODEM-SIM900A; Package: GSM-MODEM-SIM900A
footprint GSM-MODEM-SIM900A
pins: J1.1 VCC5 (power), J1.2 GND.1 (power), J1.3 VCC4 (power), J1.4 VCCMCU (power), J1.5 SIMR (io), J1.6 SIMT (io), J1.7 GND.2 (power), J1.8 RST (io)

## IR-RECEIVER
designator ?, comment IR Receiver Module
GateName_1: G$1; SymbolName_1: IR-RECEIVER; LibraryName: 18650 battery; DeviceSetName: IR-RECEIVER; Package: IR-RECEIVER
footprint IR-RECEIVER
pins: A.1 VCC.1 (io), A.2 GND.1 (io), A.3 IN.1 (io), B.1 VCC.2 (io), B.2 GND.2 (io), B.3 IN.2 (io), C.1 IN (io), C.2 GND (io), C.3 VCC (io)

## IR-RECEIVER#NC
designator ?, comment IR Receiver Module without IR sensor connector
GateName_1: G$1; SymbolName_1: IR-RECEIVER#NC; LibraryName: 18650 battery; DeviceSetName: IR-RECEIVER#NC; Package: IR-RECEIVER#NC
footprint IR-RECEIVER#NC
pins: A.1 VCC.1 (io), A.2 GND.1 (io), A.3 IN.1 (io), B.1 VCC.2 (io), B.2 GND.2 (io), B.3 IN.2 (io)

## JOYSTICK-2AXIS-BUTTON
designator ?, comment 2-Axis Analog Joystick with Push Button    Tutorial is available here: http://henrysbench.capnfatz.com/henrys-bench/arduino-sensors-and-input/arduino-ps2-joystick-tutorial-keyes-ky-023-deek-robot/   Click here to find device on ebay.com
GateName_1: G$1; SymbolName_1: JOYSTICK-2AXIS-BUTTON; LibraryName: 18650 battery; DeviceSetName: JOYSTICK-2AXIS-BUTTON; Package: JOYSTICK-2AXIS-BUTTON
footprint JOYSTICK-2AXIS-BUTTON
pins: 1 GND (power), 2 +5V (power), 3 VRX, 4 VRY, 5 SW

## LCD-I2C-CONVERTER
designator ?, comment I2C Bus to 4-Bit Parallel LCD Interface with LED backlight driver
GateName_1: G$1; SymbolName_1: LCD-I2C-CONVERTER; LibraryName: 18650 battery; DeviceSetName: LCD-I2C-CONVERTER; Package: LCD-I2C-CONVERTER
footprint LCD-I2C-CONVERTER
pins: J1.1 VCC (power), J1.2 SDA (io), J1.3 SCL (io), J1.4 GND (power), J2.1 VSS (io), J2.2 VDD (io), J2.3 VEE (io), J2.4 RS (io), J2.5 R/W (io), J2.6 EN (io), J2.7 DB0 (io), J2.8 DB1 (io), J2.9 DB2 (io), J2.10 DB3 (io), J2.11 DB4 (io), J2.12 DB5 (io), J2.13 DB6 (io), J2.14 DB7 (io), J2.15 LED.A (io), J2.16 LED.K (io)

## LED-8XRGB-LINE
designator ?, comment 8 LEDs RGB Line Display based on WS2812B   More details about controlling WS2812B RGB LEDs are available here: https://learn.sparkfun.com/tutorials/ws2812-breakout-hookup-guide   Click here to find device on ebay.com
GateName_1: G$1; SymbolName_1: LED-8XRGB-LINE; LibraryName: 18650 battery; DeviceSetName: LED-8XRGB-LINE; Package: LED-8XRGB-LINE
footprint LED-8XRGB-LINE
pins: A.1 GND.1 (power), A.2 DOUT (out), A.3 VCC.1 (power), A.4 GND.2 (power), B.1 GND.3 (power), B.2 DIN (in), B.3 VCC.2 (power), B.4 GND.4 (power)

## LED-15XRGB-QRING
designator ?, comment 15 LEDs RGB Quarter-Ring based on WS2812B   More details about controlling WS2812B RGB LEDs are available here: https://learn.sparkfun.com/tutorials/ws2812-breakout-hookup-guide   Click here to find device on ebay.com Note: Sold in packs of 4 pieces.
GateName_1: G$1; SymbolName_1: LED-15XRGB-QRING; LibraryName: 18650 battery; DeviceSetName: LED-15XRGB-QRING; Package: LED-15XRGB-QRING
footprint LED-15XRGB-QRING
pins: 1 GND.1 (power), 2 DIN (in), 3 VCC.1 (power), 4 GND.2 (power), 5 DOUT (out), 6 VCC.2 (power)

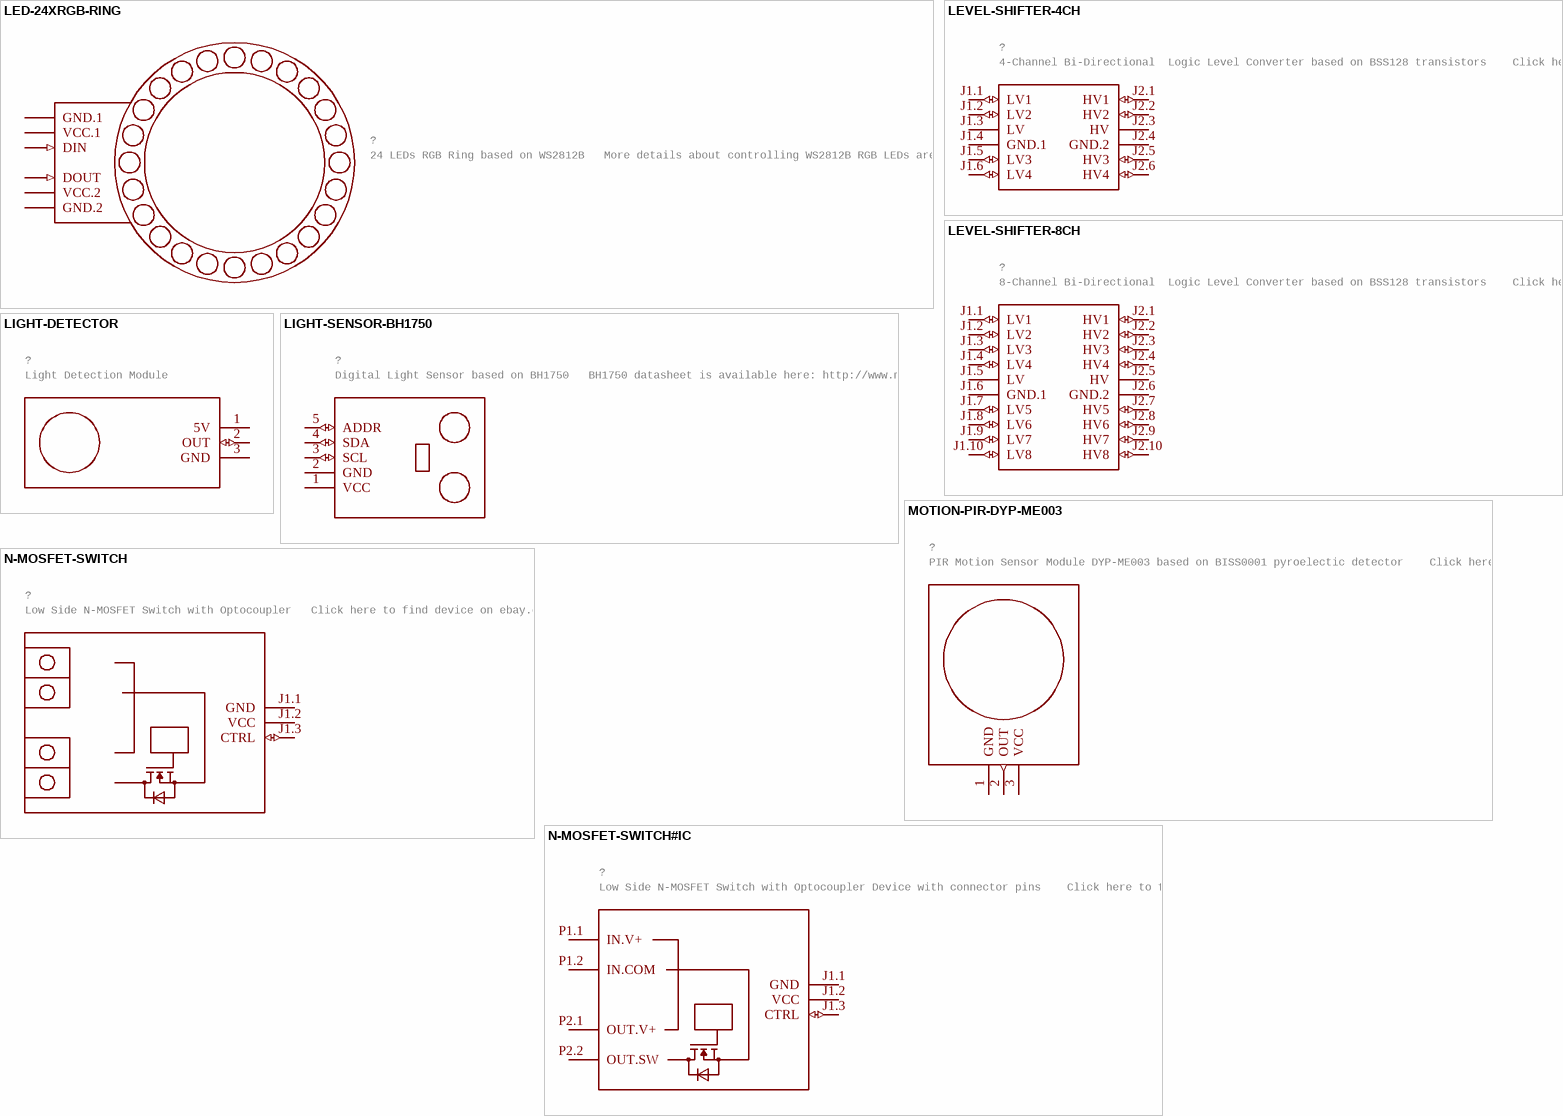
[diagram p6: symbols LED-24XRGB-RING to N-MOSFET-SWITCH#IC]

## LED-24XRGB-RING
designator ?, comment 24 LEDs RGB Ring based on WS2812B   More details about controlling WS2812B RGB LEDs are available here: https://learn.sparkfun.com/tutorials/ws2812-breakout-hookup-guide   Click here to find device on ebay.com
GateName_1: G$1; SymbolName_1: LED-24XRGB-RING; LibraryName: 18650 battery; DeviceSetName: LED-24XRGB-RING; Package: LED-24XRGB-RING
footprint LED-24XRGB-RING
pins: 1 GND.1 (power), 2 VCC.1 (power), 3 DIN (in), 4 DOUT (in), 5 VCC.2 (power), 6 GND.2 (power)

## LEVEL-SHIFTER-4CH
designator ?, comment 4-Channel Bi-Directional  Logic Level Converter based on BSS128 transistors    Click here to find device on ebay.com
GateName_1: G$1; SymbolName_1: LEVEL-SHIFTER-4CH; LibraryName: 18650 battery; DeviceSetName: LEVEL-SHIFTER-4CH; Package: LEVEL-SHIFTER-4CH
footprint LEVEL-SHIFTER-4CH
pins: J1.1 LV1 (io), J1.2 LV2 (io), J1.3 LV (power), J1.4 GND.1 (power), J1.5 LV3 (io), J1.6 LV4 (io), J2.1 HV1 (io), J2.2 HV2 (io), J2.3 HV (power), J2.4 GND.2 (power), J2.5 HV3 (io), J2.6 HV4 (io)

## LEVEL-SHIFTER-8CH
designator ?, comment 8-Channel Bi-Directional  Logic Level Converter based on BSS128 transistors    Click here to find device on ebay.com Note: There are many variants. Search for the proper version.
GateName_1: G$1; SymbolName_1: LEVEL-SHIFTER-8CH; LibraryName: 18650 battery; DeviceSetName: LEVEL-SHIFTER-8CH; Package: LEVEL-SHIFTER-8CH
footprint LEVEL-SHIFTER-8CH
pins: J1.1 LV1 (io), J1.2 LV2 (io), J1.3 LV3 (io), J1.4 LV4 (io), J1.5 LV (power), J1.6 GND.1 (power), J1.7 LV5 (io), J1.8 LV6 (io), J1.9 LV7 (io), J1.10 LV8 (io), J2.1 HV1 (io), J2.2 HV2 (io), J2.3 HV3 (io), J2.4 HV4 (io), J2.5 HV (power), J2.6 GND.2 (power), J2.7 HV5 (io), J2.8 HV6 (io), J2.9 HV7 (io), J2.10 HV8 (io)

## LIGHT-DETECTOR
designator ?, comment Light Detection Module
GateName_1: G$1; SymbolName_1: LIGHT-DETECTOR; LibraryName: 18650 battery; DeviceSetName: LIGHT-DETECTOR; Package: LIGHT-DETECTOR
footprint LIGHT-DETECTOR
pins: 1 5V (power), 2 OUT (io), 3 GND (power)

## LIGHT-SENSOR-BH1750
designator ?, comment Digital Light Sensor based on BH1750   BH1750 datasheet is available here: http://www.mouser.com/ds/2/348/bh1750fvi-e-186247.pdf   Arduino Library for BH1750 is available here: https://github.com/claws/BH1750      Video Tutorial is available here: https://www.youtube.com/watch?v=UsLcHSbxf_8   Click here to find device on ebay.com Note: There are many variants. Search for the proper version.
GateName_1: G$1; SymbolName_1: LIGHT-SENSOR-BH1750; LibraryName: 18650 battery; DeviceSetName: LIGHT-SENSOR-BH1750; Package: LIGHT-SENSOR-BH1750
footprint LIGHT-SENSOR-BH1750
pins: 1 VCC (power), 2 GND (power), 3 SCL (io), 4 SDA (io), 5 ADDR (io)

## MOTION-PIR-DYP-ME003
designator ?, comment PIR Motion Sensor Module DYP-ME003 based on BISS0001 pyroelectic detector    Click here to find device on ebay.com
GateName_1: G$1; SymbolName_1: MOTION-PIR-DYP-ME003; LibraryName: 18650 battery; DeviceSetName: MOTION-PIR-DYP-ME003; Package: MOTION-PIR-DYP-ME003
footprint MOTION-PIR-DYP-ME003
pins: 1 GND (power), 2 OUT (out), 3 VCC (power)

## N-MOSFET-SWITCH
designator ?, comment Low Side N-MOSFET Switch with Optocoupler   Click here to find device on ebay.com
GateName_1: G$1; SymbolName_1: N-MOSFET-SWITCH; LibraryName: 18650 battery; DeviceSetName: N-MOSFET-SWITCH; Package: N-MOSFET-SWITCH
footprint N-MOSFET-SWITCH
pins: J1.1 GND (power), J1.2 VCC (power), J1.3 CTRL (io)

## N-MOSFET-SWITCH#IC
designator ?, comment Low Side N-MOSFET Switch with Optocoupler Device with connector pins    Click here to find device on ebay.com
GateName_1: G$1; SymbolName_1: N-MOSFET-SWITCH#IC; LibraryName: 18650 battery; DeviceSetName: N-MOSFET-SWITCH#IC; Package: N-MOSFET-SWITCH#IC
footprint N-MOSFET-SWITCH#IC
pins: J1.1 GND (power), J1.2 VCC (power), J1.3 CTRL (io), P1.1 IN.V+ (power), P1.2 IN.COM (power), P2.1 OUT.V+ (power), P2.2 OUT.SW (power)

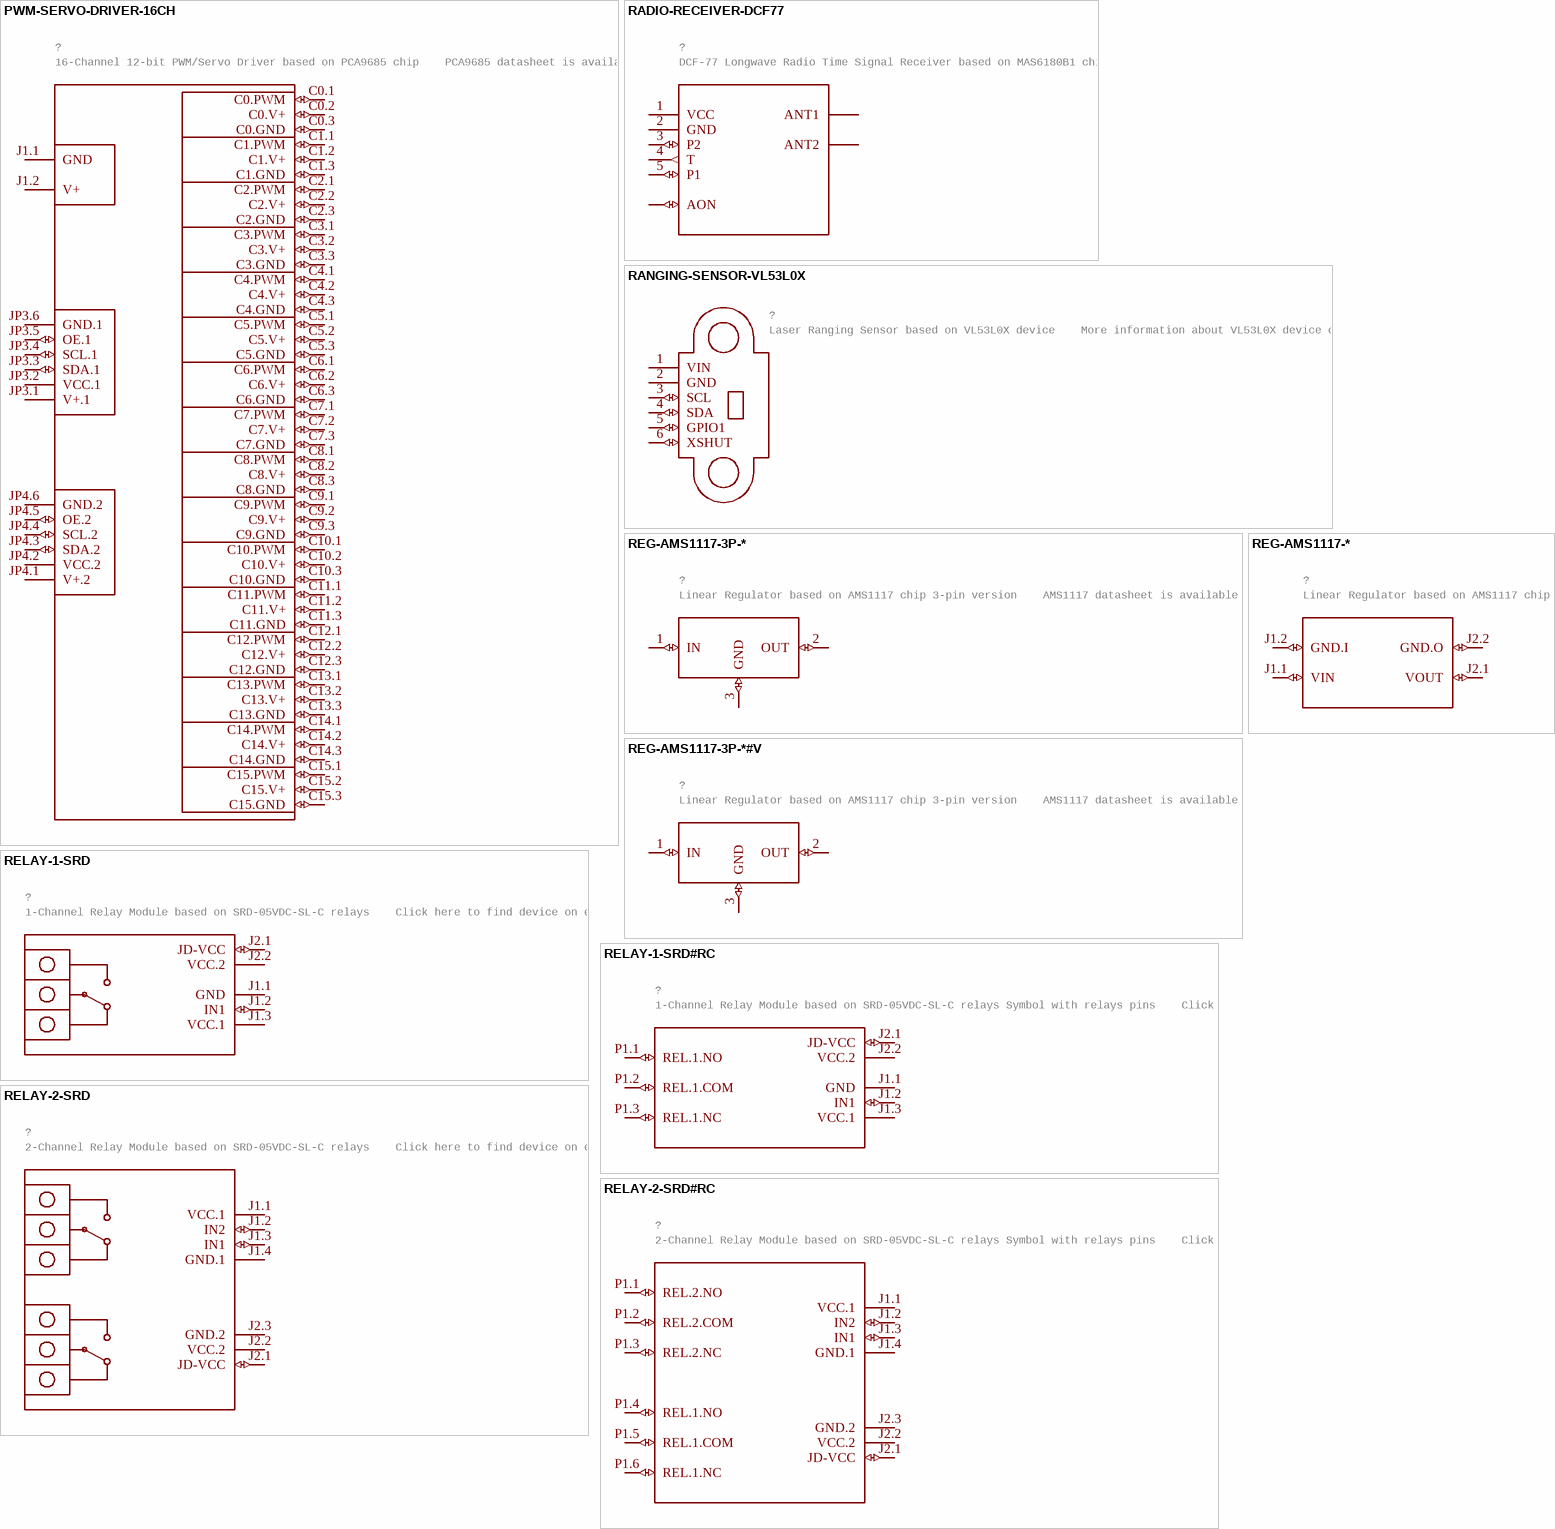
[diagram p7: symbols PWM-SERVO-DRIVER-16CH to RELAY-2-SRD#RC]

## PWM-SERVO-DRIVER-16CH
designator ?, comment 16-Channel 12-bit PWM/Servo Driver based on PCA9685 chip    PCA9685 datasheet is available here: http://www.nxp.com/documents/data_sheet/PCA9685.pdf   Arduino Library for PCA9685 is available here: https://github.com/kasperskaarhoj/PCA9685-Arduino-Library   Click here to find device on ebay.com
GateName_1: G$1; SymbolName_1: PWM-SERVO-DRIVER-16CH; LibraryName: 18650 battery; DeviceSetName: PWM-SERVO-DRIVER-16CH; Package: PWM-SERVO-DRIVER-16CH
footprint PWM-SERVO-DRIVER-16CH
pins: C0.1 C0.PWM (io), C0.2 C0.V+ (io), C0.3 C0.GND (io), C1.1 C1.PWM (io), C1.2 C1.V+ (io), C1.3 C1.GND (io), C2.1 C2.PWM (io), C2.2 C2.V+ (io), C2.3 C2.GND (io), C3.1 C3.PWM (io), C3.2 C3.V+ (io), C3.3 C3.GND (io), C4.1 C4.PWM (io), C4.2 C4.V+ (io), C4.3 C4.GND (io), C5.1 C5.PWM (io), C5.2 C5.V+ (io), C5.3 C5.GND (io), C6.1 C6.PWM (io), C6.2 C6.V+ (io), C6.3 C6.GND (io), C7.1 C7.PWM (io), C7.2 C7.V+ (io), C7.3 C7.GND (io), C8.1 C8.PWM (io), C8.2 C8.V+ (io), C8.3 C8.GND (io), C9.1 C9.PWM (io), C9.2 C9.V+ (io), C9.3 C9.GND (io), C10.1 C10.PWM (io), C10.2 C10.V+ (io), C10.3 C10.GND (io), C11.1 C11.PWM (io), C11.2 C11.V+ (io), C11.3 C11.GND (io), C12.1 C12.PWM (io), C12.2 C12.V+ (io), C12.3 C12.GND (io), C13.1 C13.PWM (io), C13.2 C13.V+ (io), C13.3 C13.GND (io), C14.1 C14.PWM (io), C14.2 C14.V+ (io), C14.3 C14.GND (io), C15.1 C15.PWM (io), C15.2 C15.V+ (io), C15.3 C15.GND (io), J1.1 GND (power), J1.2 V+ (power), JP3.1 V+.1 (power), JP3.2 VCC.1 (power), JP3.3 SDA.1 (io), JP3.4 SCL.1 (io), JP3.5 OE.1 (io), JP3.6 GND.1 (power), JP4.1 V+.2 (power), JP4.2 VCC.2 (power), JP4.3 SDA.2 (io), JP4.4 SCL.2 (io), JP4.5 OE.2 (io), JP4.6 GND.2 (power)

## RADIO-RECEIVER-DCF77
designator ?, comment DCF-77 Longwave Radio Time Signal Receiver based on MAS6180B1 chip
GateName_1: G$1; SymbolName_1: RADIO-RECEIVER-DCF77; LibraryName: 18650 battery; DeviceSetName: RADIO-RECEIVER-DCF77; Package: RADIO-RECEIVER-DCF77
footprint RADIO-RECEIVER-DCF77
pins: 1 VCC (power), 2 GND (power), 3 P2 (io), 4 T (out), 5 P1 (io), A1 ANT1, A2 ANT2, AON (io)

## RANGING-SENSOR-VL53L0X
designator ?, comment Laser Ranging Sensor based on VL53L0X device    More information about VL53L0X device can be found here: http://www.st.com/en/imaging-and-photonics-solutions/vl53l0x.html   Arduino Library for VL53L0X is available here: https://github.com/pololu/vl53l0x-arduino   Click here to find device on ebay.com Note: There are many variants. Search for the proper version.
GateName_1: G$1; SymbolName_1: RANGING-SENSOR-VL53L0X; LibraryName: 18650 battery; DeviceSetName: RANGING-SENSOR-VL53L0X; Package: RANGING-SENSOR-VL53L0X
footprint RANGING-SENSOR-VL53L0X
pins: 1 VIN (power), 2 GND (power), 3 SCL (io), 4 SDA (io), 5 GPIO1 (io), 6 XSHUT (io)

## REG-AMS1117-3P-*
designator ?, comment Linear Regulator based on AMS1117 chip 3-pin version    AMS1117 datasheet is available here: http://www.advanced-monolithic.com/pdf/ds1117.pdf   Click here to find device on ebay.com Note: There are many variants. Search for the proper version.
GateName_1: G$1; SymbolName_1: REG-AMS1117-3P; DeviceSetName: REG-AMS1117-3P-*; LibraryName: 18650 battery; Package: REG-AMS1117-3P
footprint REG-AMS1117-3P
pins: 1 IN (io), 2 OUT (io), 3 GND (io)

## REG-AMS1117-3P-*#V
designator ?, comment Linear Regulator based on AMS1117 chip 3-pin version    AMS1117 datasheet is available here: http://www.advanced-monolithic.com/pdf/ds1117.pdf   Click here to find device on ebay.com Note: There are many variants. Search for the proper version.
GateName_1: G$1; SymbolName_1: REG-AMS1117-3P; DeviceName: #V; DeviceSetName: REG-AMS1117-3P-*; LibraryName: 18650 battery; Package: REG-AMS1117-3P#V
footprint REG-AMS1117-3P#V
pins: 1 IN (io), 2 OUT (io), 3 GND (io)

## REG-AMS1117-*
designator ?, comment Linear Regulator based on AMS1117 chip
GateName_1: G$1; SymbolName_1: REG-AMS1117; DeviceSetName: REG-AMS1117-*; LibraryName: 18650 battery; Package: REG-AMS1117
footprint REG-AMS1117
pins: J1.1 VIN (io), J1.2 GND.I (io), J2.1 VOUT (io), J2.2 GND.O (io)

## RELAY-1-SRD
designator ?, comment 1-Channel Relay Module based on SRD-05VDC-SL-C relays    Click here to find device on ebay.com
GateName_1: G$1; SymbolName_1: RELAY-1-SRD; LibraryName: 18650 battery; DeviceSetName: RELAY-1-SRD; Package: RELAY-1-SRD
footprint RELAY-1-SRD
pins: J1.1 GND (power), J1.2 IN1 (io), J1.3 VCC.1 (power), J2.1 JD-VCC (io), J2.2 VCC.2 (power)

## RELAY-1-SRD#RC
designator ?, comment 1-Channel Relay Module based on SRD-05VDC-SL-C relays Symbol with relays pins    Click here to find device on ebay.com
GateName_1: G$1; SymbolName_1: RELAY-1-SRD#RC; LibraryName: 18650 battery; DeviceSetName: RELAY-1-SRD#RC; Package: RELAY-1-SRD#RC
footprint RELAY-1-SRD#RC
pins: J1.1 GND (power), J1.2 IN1 (io), J1.3 VCC.1 (power), J2.1 JD-VCC (io), J2.2 VCC.2 (power), P1.1 REL.1.NO (io), P1.2 REL.1.COM (io), P1.3 REL.1.NC (io)

## RELAY-2-SRD
designator ?, comment 2-Channel Relay Module based on SRD-05VDC-SL-C relays    Click here to find device on ebay.com
GateName_1: G$1; SymbolName_1: RELAY-2-SRD; LibraryName: 18650 battery; DeviceSetName: RELAY-2-SRD; Package: RELAY-2-SRD
footprint RELAY-2-SRD
pins: J1.1 VCC.1 (power), J1.2 IN2 (io), J1.3 IN1 (io), J1.4 GND.1 (power), J2.1 JD-VCC (io), J2.2 VCC.2 (power), J2.3 GND.2 (power)

## RELAY-2-SRD#RC
designator ?, comment 2-Channel Relay Module based on SRD-05VDC-SL-C relays Symbol with relays pins    Click here to find device on ebay.com
GateName_1: G$1; SymbolName_1: RELAY-2-SRD#RC; LibraryName: 18650 battery; DeviceSetName: RELAY-2-SRD#RC; Package: RELAY-2-SRD#RC
footprint RELAY-2-SRD#RC
pins: J1.1 VCC.1 (power), J1.2 IN2 (io), J1.3 IN1 (io), J1.4 GND.1 (power), J2.1 JD-VCC (io), J2.2 VCC.2 (power), J2.3 GND.2 (power), P1.1 REL.2.NO (io), P1.2 REL.2.COM (io), P1.3 REL.2.NC (io), P1.4 REL.1.NO (io), P1.5 REL.1.COM (io), P1.6 REL.1.NC (io)

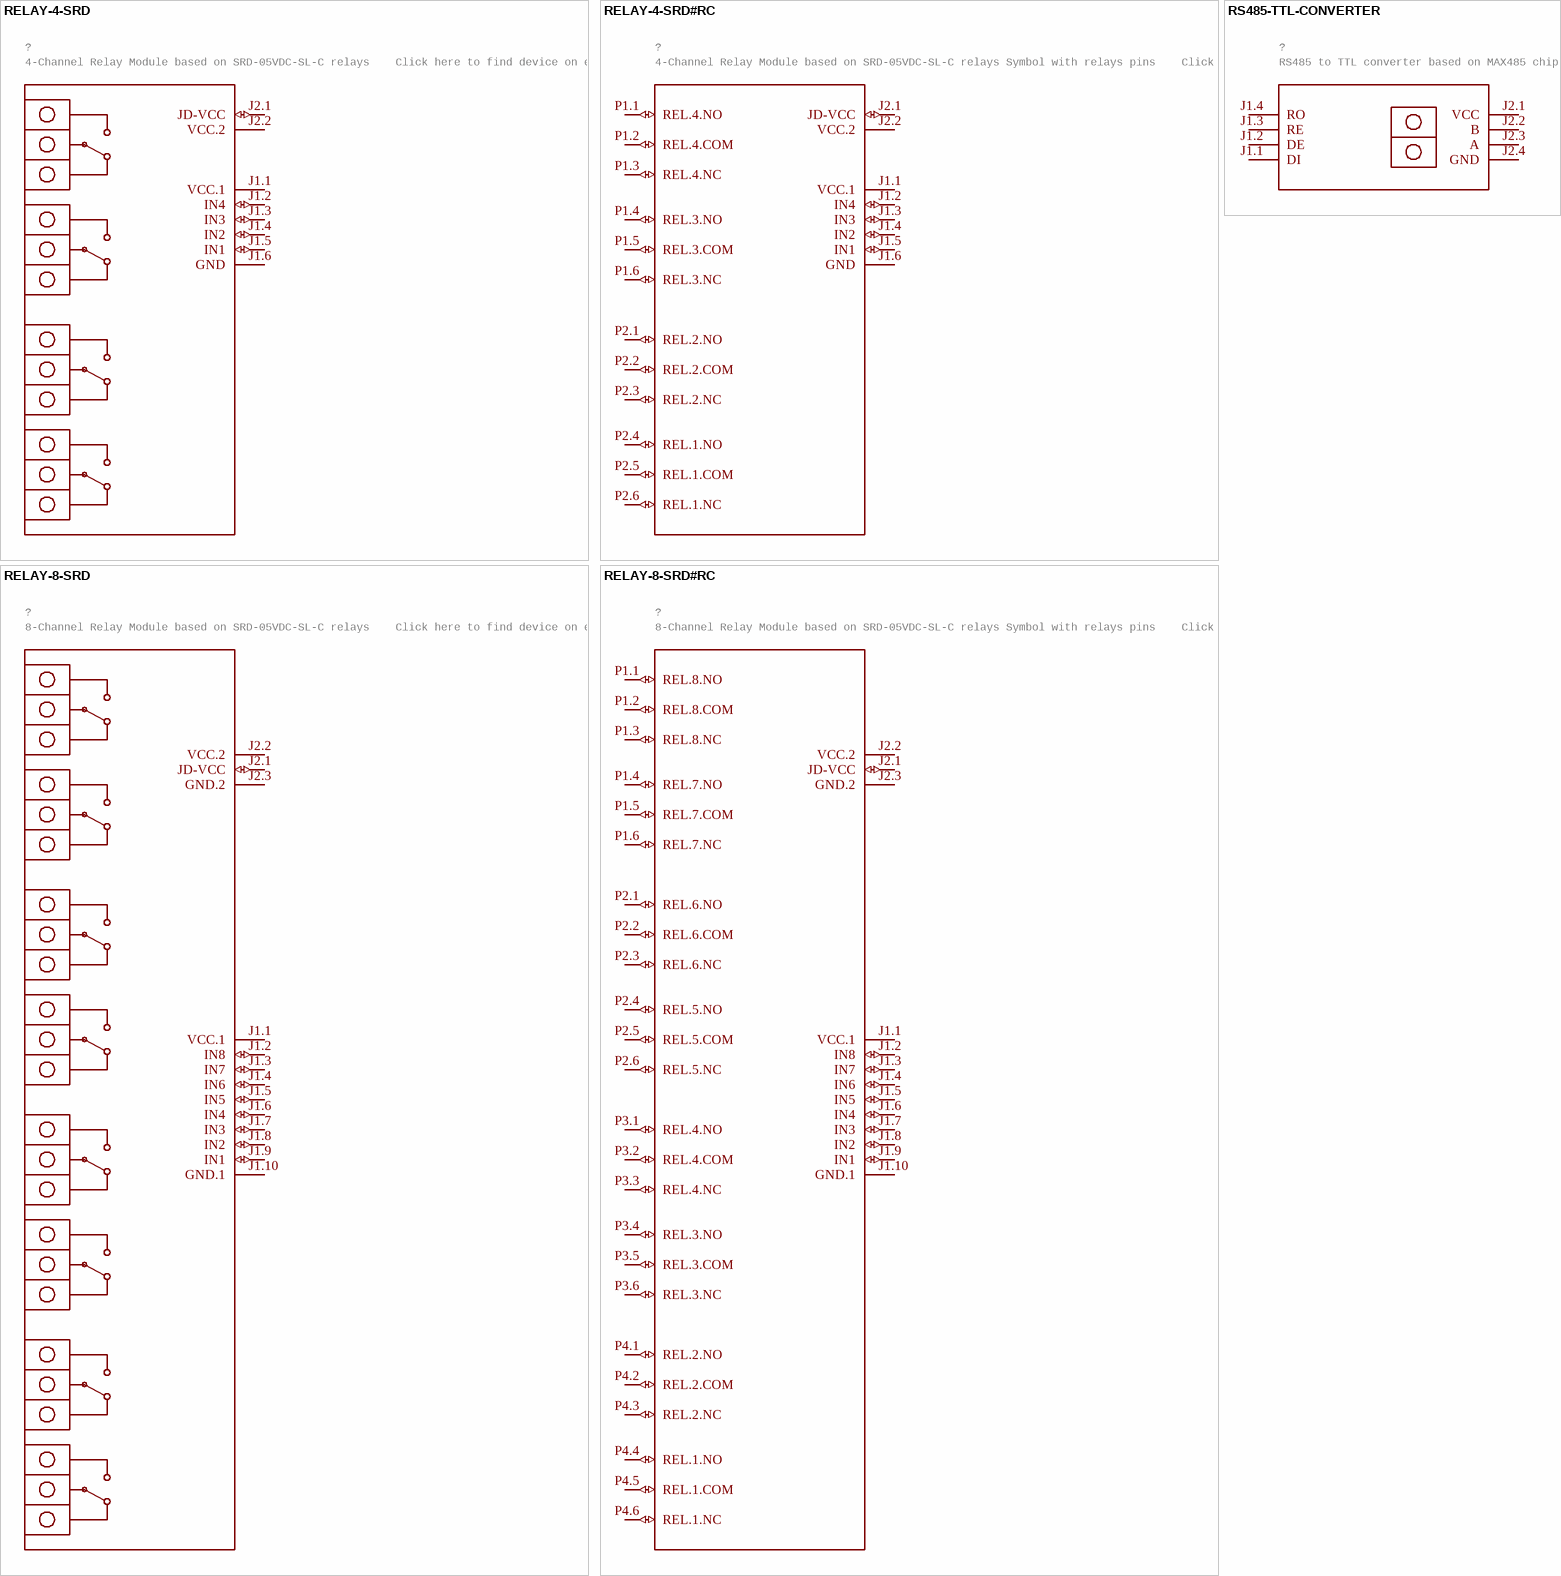
[diagram p8: symbols RELAY-4-SRD to RS485-TTL-CONVERTER]

## RELAY-4-SRD
designator ?, comment 4-Channel Relay Module based on SRD-05VDC-SL-C relays    Click here to find device on ebay.com
GateName_1: G$1; SymbolName_1: RELAY-4-SRD; LibraryName: 18650 battery; DeviceSetName: RELAY-4-SRD; Package: RELAY-4-SRD
footprint RELAY-4-SRD
pins: J1.1 VCC.1 (power), J1.2 IN4 (io), J1.3 IN3 (io), J1.4 IN2 (io), J1.5 IN1 (io), J1.6 GND (power), J2.1 JD-VCC (io), J2.2 VCC.2 (power)

## RELAY-4-SRD#RC
designator ?, comment 4-Channel Relay Module based on SRD-05VDC-SL-C relays Symbol with relays pins    Click here to find device on ebay.com
GateName_1: G$1; SymbolName_1: RELAY-4-SRD#RC; LibraryName: 18650 battery; DeviceSetName: RELAY-4-SRD#RC; Package: RELAY-4-SRD#RC
footprint RELAY-4-SRD#RC
pins: J1.1 VCC.1 (power), J1.2 IN4 (io), J1.3 IN3 (io), J1.4 IN2 (io), J1.5 IN1 (io), J1.6 GND (power), J2.1 JD-VCC (io), J2.2 VCC.2 (power), P1.1 REL.4.NO (io), P1.2 REL.4.COM (io), P1.3 REL.4.NC (io), P1.4 REL.3.NO (io), P1.5 REL.3.COM (io), P1.6 REL.3.NC (io), P2.1 REL.2.NO (io), P2.2 REL.2.COM (io), P2.3 REL.2.NC (io), P2.4 REL.1.NO (io), P2.5 REL.1.COM (io), P2.6 REL.1.NC (io)

## RELAY-8-SRD
designator ?, comment 8-Channel Relay Module based on SRD-05VDC-SL-C relays    Click here to find device on ebay.com
GateName_1: G$1; SymbolName_1: RELAY-8-SRD; LibraryName: 18650 battery; DeviceSetName: RELAY-8-SRD; Package: RELAY-8-SRD
footprint RELAY-8-SRD
pins: J1.1 VCC.1 (power), J1.2 IN8 (io), J1.3 IN7 (io), J1.4 IN6 (io), J1.5 IN5 (io), J1.6 IN4 (io), J1.7 IN3 (io), J1.8 IN2 (io), J1.9 IN1 (io), J1.10 GND.1 (power), J2.1 JD-VCC (io), J2.2 VCC.2 (power), J2.3 GND.2 (power)

## RELAY-8-SRD#RC
designator ?, comment 8-Channel Relay Module based on SRD-05VDC-SL-C relays Symbol with relays pins    Click here to find device on ebay.com
GateName_1: G$1; SymbolName_1: RELAY-8-SRD#RC; LibraryName: 18650 battery; DeviceSetName: RELAY-8-SRD#RC; Package: RELAY-8-SRD#RC
footprint RELAY-8-SRD#RC
pins: J1.1 VCC.1 (power), J1.2 IN8 (io), J1.3 IN7 (io), J1.4 IN6 (io), J1.5 IN5 (io), J1.6 IN4 (io), J1.7 IN3 (io), J1.8 IN2 (io), J1.9 IN1 (io), J1.10 GND.1 (power), J2.1 JD-VCC (io), J2.2 VCC.2 (power), J2.3 GND.2 (power), P1.1 REL.8.NO (io), P1.2 REL.8.COM (io), P1.3 REL.8.NC (io), P1.4 REL.7.NO (io), P1.5 REL.7.COM (io), P1.6 REL.7.NC (io), P2.1 REL.6.NO (io), P2.2 REL.6.COM (io), P2.3 REL.6.NC (io), P2.4 REL.5.NO (io), P2.5 REL.5.COM (io), P2.6 REL.5.NC (io), P3.1 REL.4.NO (io), P3.2 REL.4.COM (io), P3.3 REL.4.NC (io), P3.4 REL.3.NO (io), P3.5 REL.3.COM (io), P3.6 REL.3.NC (io), P4.1 REL.2.NO (io), P4.2 REL.2.COM (io), P4.3 REL.2.NC (io), P4.4 REL.1.NO (io), P4.5 REL.1.COM (io), P4.6 REL.1.NC (io)

## RS485-TTL-CONVERTER
designator ?, comment RS485 to TTL converter based on MAX485 chip
GateName_1: G$1; SymbolName_1: RS485-TTL-CONVERTER; LibraryName: 18650 battery; DeviceSetName: RS485-TTL-CONVERTER; Package: RS485-TTL-CONVERTER
footprint RS485-TTL-CONVERTER
pins: J1.1 DI, J1.2 DE, J1.3 RE, J1.4 RO, J2.1 VCC (power), J2.2 B, J2.3 A, J2.4 GND (power)

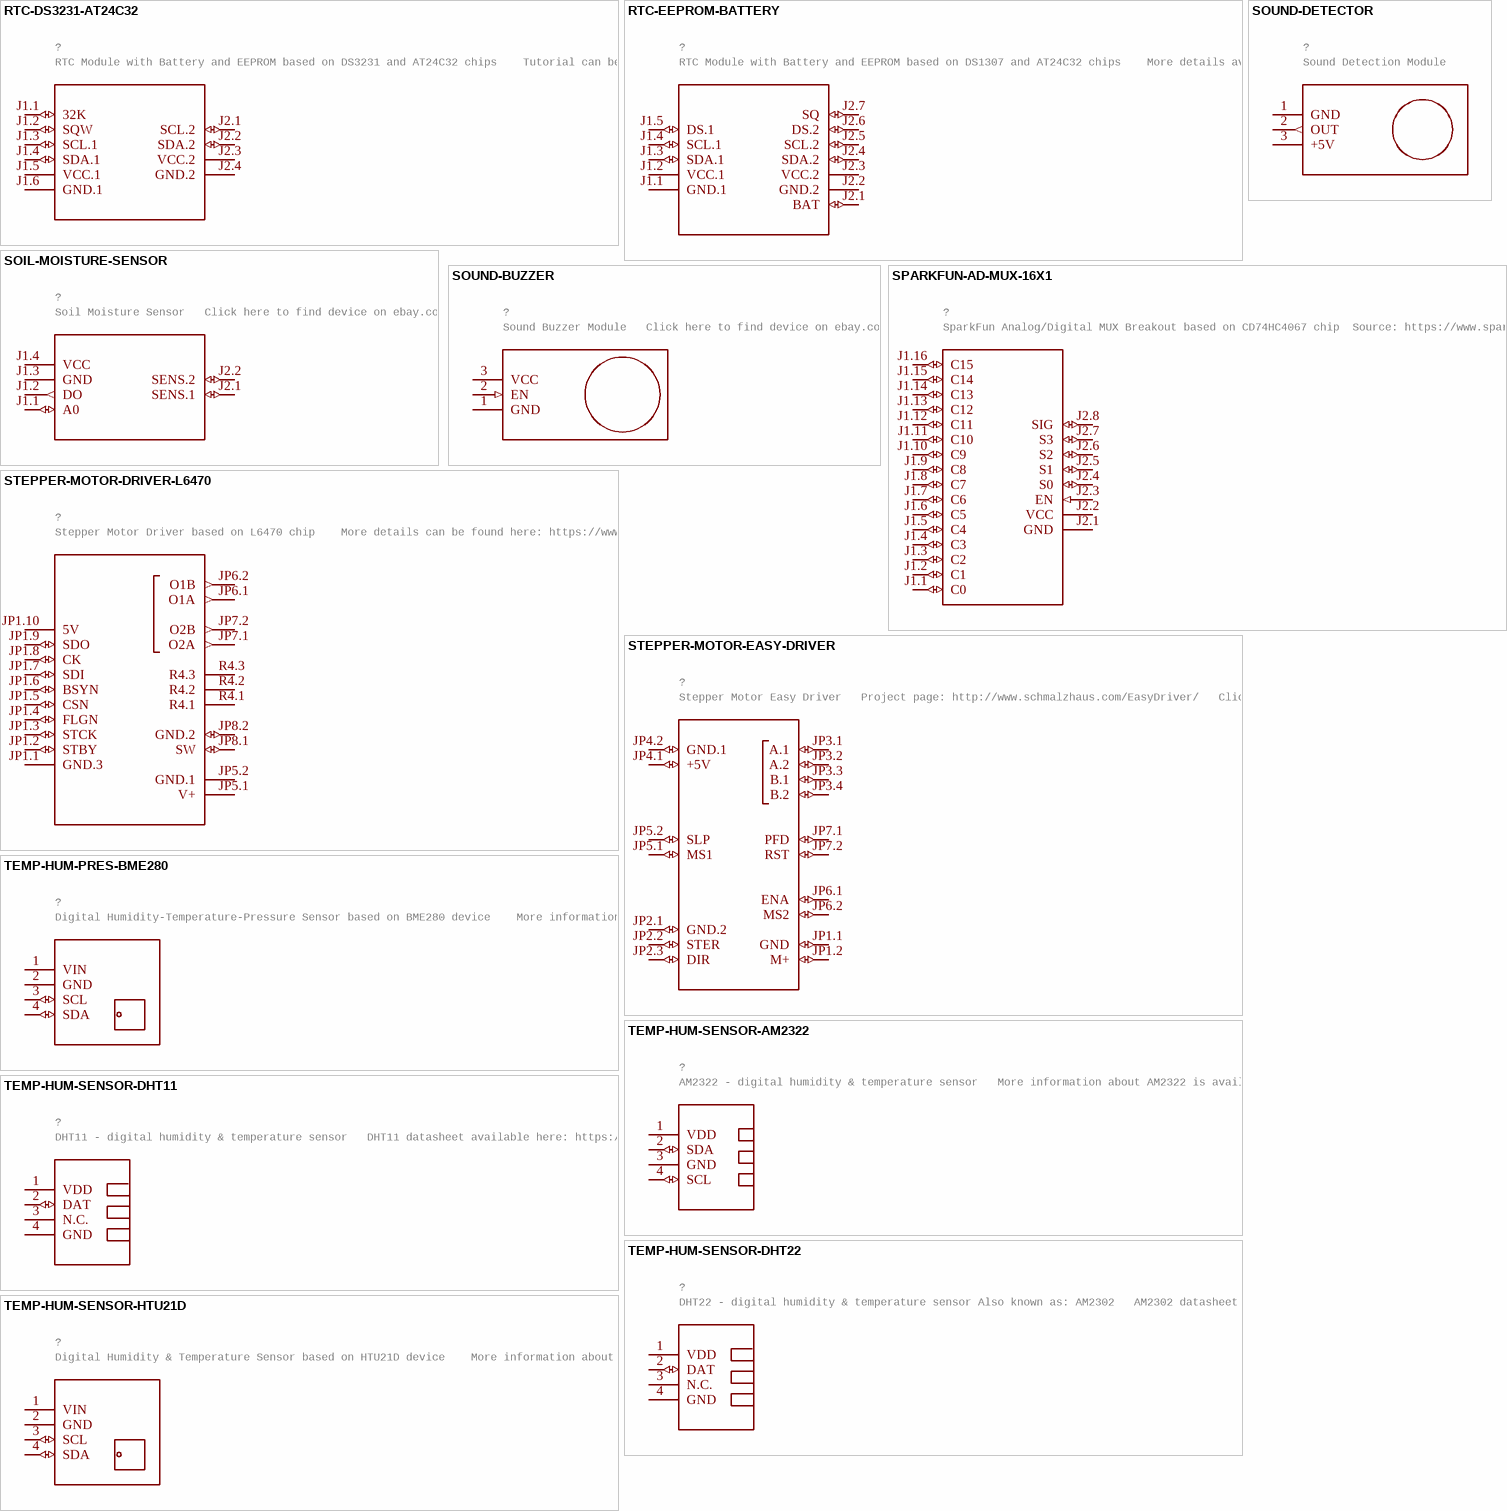
[diagram p9: symbols RTC-DS3231-AT24C32 to TEMP-HUM-SENSOR-HTU21D]

## RTC-DS3231-AT24C32
designator ?, comment RTC Module with Battery and EEPROM based on DS3231 and AT24C32 chips    Tutorial can be found here: https://edwardmallon.wordpress.com/2014/05/21/using-a-cheap-3-ds3231-rtc-at24c32-eeprom-from-ebay/   Click here to find device on ebay.com
GateName_1: G$1; SymbolName_1: RTC-DS3231-AT24C32; LibraryName: 18650 battery; DeviceSetName: RTC-DS3231-AT24C32; Package: RTC-DS3231-AT24C32
footprint RTC-DS3231-AT24C32
pins: J1.1 32K (io), J1.2 SQW (io), J1.3 SCL.1 (io), J1.4 SDA.1 (io), J1.5 VCC.1 (power), J1.6 GND.1 (power), J2.1 SCL.2 (io), J2.2 SDA.2 (io), J2.3 VCC.2 (power), J2.4 GND.2 (power)

## RTC-EEPROM-BATTERY
designator ?, comment RTC Module with Battery and EEPROM based on DS1307 and AT24C32 chips    More details available here: http://henrysbench.capnfatz.com/henrys-bench/arduino-sensors-and-input/arduino-tiny-rtc-d1307-tutorial/   Click here to find device on ebay.com
GateName_1: G$1; SymbolName_1: RTC-EEPROM-BATTERY; LibraryName: 18650 battery; DeviceSetName: RTC-EEPROM-BATTERY; Package: RTC-EEPROM-BATTERY
footprint RTC-EEPROM-BATTERY
pins: J1.1 GND.1 (power), J1.2 VCC.1 (power), J1.3 SDA.1 (io), J1.4 SCL.1 (io), J1.5 DS.1 (io), J2.1 BAT (io), J2.2 GND.2 (power), J2.3 VCC.2 (power), J2.4 SDA.2 (io), J2.5 SCL.2 (io), J2.6 DS.2 (io), J2.7 SQ (io)

## SOIL-MOISTURE-SENSOR
designator ?, comment Soil Moisture Sensor   Click here to find device on ebay.com
GateName_1: G$1; SymbolName_1: SOIL-MOISTURE-SENSOR; LibraryName: 18650 battery; DeviceSetName: SOIL-MOISTURE-SENSOR; Package: SOIL-MOISTURE-SENSOR
footprint SOIL-MOISTURE-SENSOR
pins: J1.1 A0 (io), J1.2 DO (out), J1.3 GND (power), J1.4 VCC (power), J2.1 SENS.1 (io), J2.2 SENS.2 (io)

## SOUND-BUZZER
designator ?, comment Sound Buzzer Module   Click here to find device on ebay.com
GateName_1: G$1; SymbolName_1: SOUND-BUZZER; LibraryName: 18650 battery; DeviceSetName: SOUND-BUZZER; Package: SOUND-BUZZER
footprint SOUND-BUZZER
pins: 1 GND (power), 2 EN (in), 3 VCC (power)

## SOUND-DETECTOR
designator ?, comment Sound Detection Module
GateName_1: G$1; SymbolName_1: SOUND-DETECTOR; LibraryName: 18650 battery; DeviceSetName: SOUND-DETECTOR; Package: SOUND-DETECTOR
footprint SOUND-DETECTOR
pins: 1 GND (power), 2 OUT (out), 3 +5V (power)

## SPARKFUN-AD-MUX-16X1
designator ?, comment SparkFun Analog/Digital MUX Breakout based on CD74HC4067 chip  Source: https://www.sparkfun.com/products/9056
GateName_1: G$1; SymbolName_1: SPARKFUN-AD-MUX-16X1; LibraryName: 18650 battery; DeviceSetName: SPARKFUN-AD-MUX-16X1; Package: SPARKFUN-AD-MUX-16X1
footprint SPARKFUN-AD-MUX-16X1
pins: J1.1 C0 (io), J1.2 C1 (io), J1.3 C2 (io), J1.4 C3 (io), J1.5 C4 (io), J1.6 C5 (io), J1.7 C6 (io), J1.8 C7 (io), J1.9 C8 (io), J1.10 C9 (io), J1.11 C10 (io), J1.12 C11 (io), J1.13 C12 (io), J1.14 C13 (io), J1.15 C14 (io), J1.16 C15 (io), J2.1 GND (power), J2.2 VCC (power), J2.3 EN (in), J2.4 S0 (io), J2.5 S1 (io), J2.6 S2 (io), J2.7 S3 (io), J2.8 SIG (io)

## STEPPER-MOTOR-DRIVER-L6470
designator ?, comment Stepper Motor Driver based on L6470 chip    More details can be found here: https://www.sparkfun.com/products/retired/10859   L6470 datasheet is available here: www.st.com/resource/en/datasheet/CD00255075.pdf   Click here to find device on ebay.com
GateName_1: G$1; SymbolName_1: STEPPER-MOTOR-DRIVER-L6470; LibraryName: 18650 battery; DeviceSetName: STEPPER-MOTOR-DRIVER-L6470; Package: STEPPER-MOTOR-DRIVER-L6470
footprint STEPPER-MOTOR-DRIVER-L6470
pins: JP1.1 GND.3 (power), JP1.2 STBY (io), JP1.3 STCK (io), JP1.4 FLGN (io), JP1.5 CSN (io), JP1.6 BSYN (io), JP1.7 SDI (io), JP1.8 CK (io), JP1.9 SDO (io), JP1.10 5V (power), JP5.1 V+ (power), JP5.2 GND.1 (power), JP6.1 O1A (out), JP6.2 O1B (out), JP7.1 O2A (out), JP7.2 O2B (out), JP8.1 SW (io), JP8.2 GND.2 (io), R4.1, R4.2, R4.3

## STEPPER-MOTOR-EASY-DRIVER
designator ?, comment Stepper Motor Easy Driver   Project page: http://www.schmalzhaus.com/EasyDriver/   Click here to find device on ebay.com
GateName_1: G$1; SymbolName_1: STEPPER-MOTOR-EASY-DRIVER; LibraryName: 18650 battery; DeviceSetName: STEPPER-MOTOR-EASY-DRIVER; Package: STEPPER-MOTOR-EASY-DRIVER
footprint STEPPER-MOTOR-EASY-DRIVER
pins: JP1.1 GND (io), JP1.2 M+ (io), JP2.1 GND.2 (io), JP2.2 STER (io), JP2.3 DIR (io), JP3.1 A.1 (io), JP3.2 A.2 (io), JP3.3 B.1 (io), JP3.4 B.2 (io), JP4.1 +5V (io), JP4.2 GND.1 (io), JP5.1 MS1 (io), JP5.2 SLP (io), JP6.1 ENA (io), JP6.2 MS2 (io), JP7.1 PFD (io), JP7.2 RST (io)

## TEMP-HUM-PRES-BME280
designator ?, comment Digital Humidity-Temperature-Pressure Sensor based on BME280 device    More information about BME280 device is available here: https://www.bosch-sensortec.com/bst/products/all_products/bme280   Click here to find device on ebay.com
GateName_1: G$1; SymbolName_1: TEMP-HUM-PRES-BME280; LibraryName: 18650 battery; DeviceSetName: TEMP-HUM-PRES-BME280; Package: TEMP-HUM-PRES-BME280
footprint TEMP-HUM-PRES-BME280
pins: 1 VIN (power), 2 GND (power), 3 SCL (io), 4 SDA (io)

## TEMP-HUM-SENSOR-AM2322
designator ?, comment AM2322 - digital humidity & temperature sensor   More information about AM2322 is available here: http://www.electrodragon.com/w/AM2322   Click here to find device on ebay.com
GateName_1: G$1; SymbolName_1: TEMP-HUM-SENSOR-AM2322; LibraryName: 18650 battery; DeviceSetName: TEMP-HUM-SENSOR-AM2322; Package: TEMP-HUM-SENSOR-AM2322
footprint TEMP-HUM-SENSOR-AM2322
pins: 1 VDD (power), 2 SDA (io), 3 GND (power), 4 SCL (io)